# Altium integrated library Xilinx XC4000XL.IntLib: 450 symbols (part 1 of 58)
Pins are listed as number, name and electrical type; pins without a type are passive.

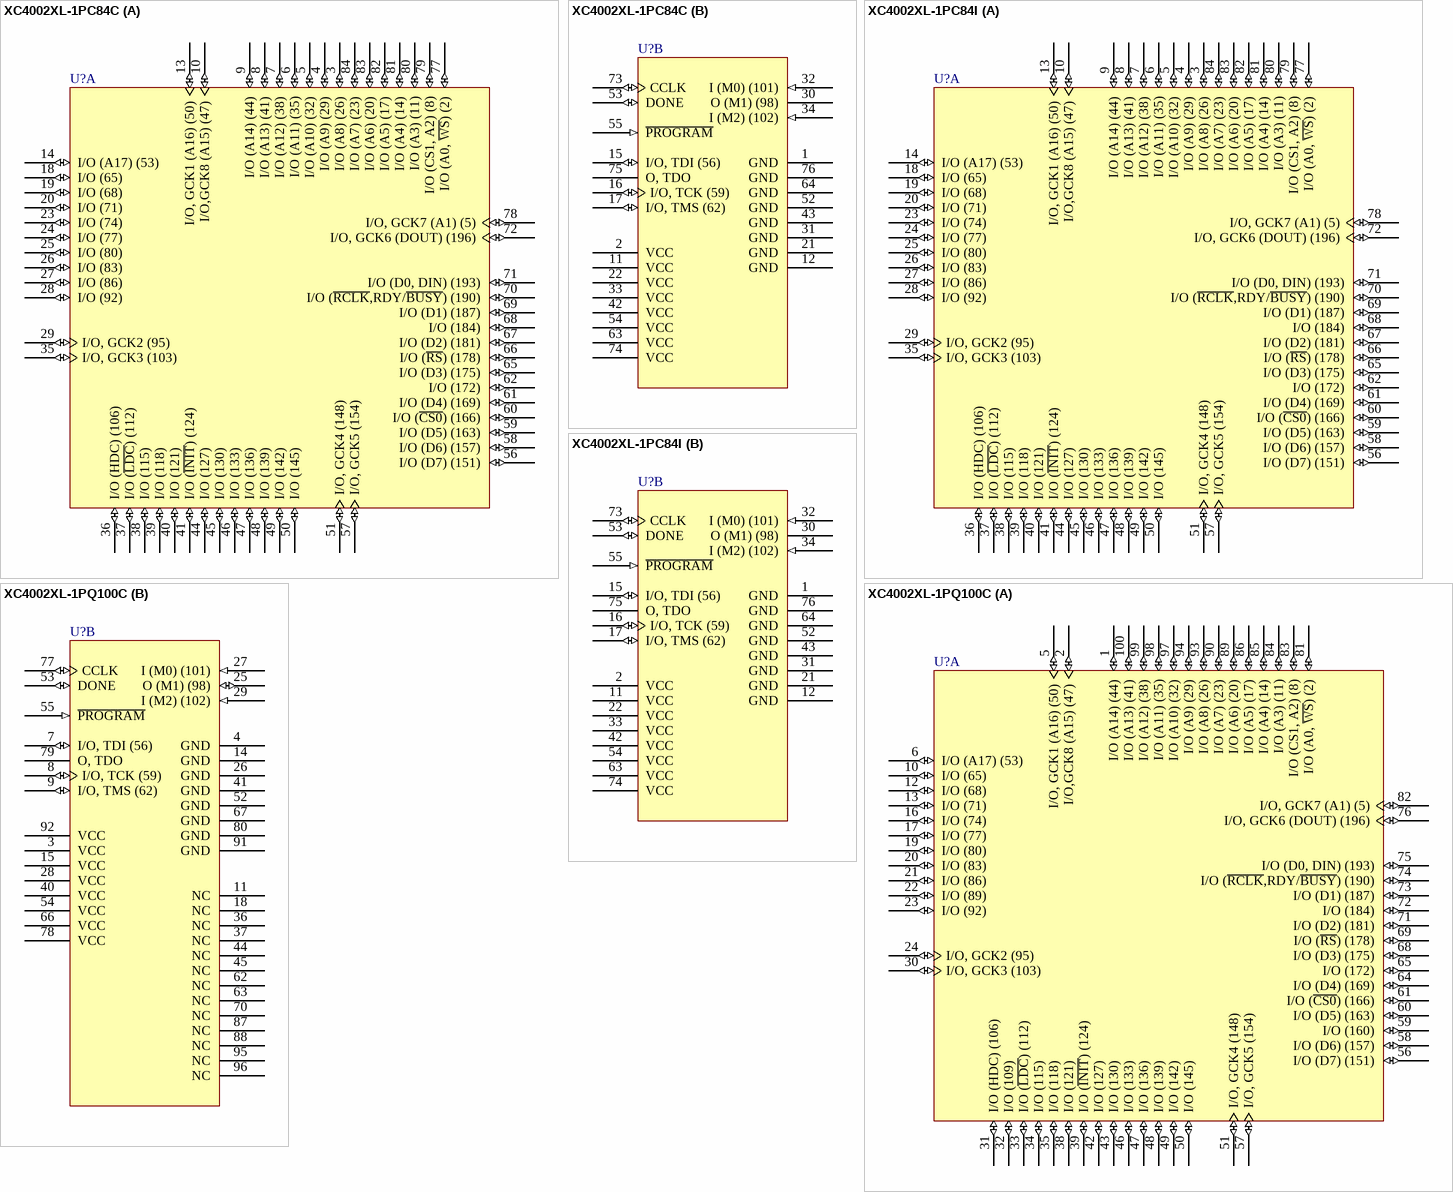
[diagram p0: symbols XC4002XL-1PC84C to XC4002XL-1PQ100C]

## XC4002XL-1PC84C
designator U?
XC4000XL FPGA, 61 I/Os, 84-Pin PLCC, Speed Grade 1, Commercial Grade; Published: 28-Feb-2003; LatestRevisionDate: 13-Apr-2006; LatestRevisionNote: IPC-7351 Footprint Added.; DatasheetVersion: ver1.6, May-1999; PackageVersion: ver1.2, Jun-2004; PackageReference: PC84; Publisher: Altium Limited; PackageDescription: 84-Pin Plastic Leaded Chip Carrier (PC84); Code_JEDEC: MS-047; Code_IPC: PLCC-84; ComponentLink1Description: XC4000XL Datasheet; ComponentLink1URL: http://www.xilinx.com/support/documentation/data_sheets/4000.pdf; ComponentLink2Description: Discontinuation Notice; ComponentLink2URL: http://www.xilinx.com/support/documentation/customer_notices/pdn00001.pdf; ComponentLink3Description: PC84 Package Drawing; ComponentLink3URL: http://www.xilinx.com/support/documentation/package_specs/pc84.pdf; ComponentLink4Description: XC4000 Documents; ComponentLink4URL: http://www.xilinx.com/support/documentation/xc4000.htm; ComponentLink5Description: Xilinx.com Home; ComponentLink5URL: http://www.xilinx.com
footprint PC84_N (Leaded Chip Carrier, 84-Leads, Body 29.3x29.3mm, Pitch 1.27mm, IPC Medium Density)
footprint PC84_L (Leaded Chip Carrier, 84-Leads, Body 29.3x29.3mm, Pitch 1.27mm, IPC High Density)
footprint PC84_M (Leaded Chip Carrier, 84-Leads, Body 29.3x29.3mm, Pitch 1.27mm, IPC Low Density)
part A pins: 3 I/O (A8) (26) (io), 4 I/O (A9) (29) (io), 5 I/O (A10) (32) (io), 6 I/O (A11) (35) (io), 7 I/O (A12) (38) (io), 8 I/O (A13) (41) (io), 9 I/O (A14) (44) (io), 10 I/O,GCK8 (A15) (47) (io), 13 I/O, GCK1 (A16) (50) (io), 14 I/O (A17) (53) (io), 18 I/O (65) (io), 19 I/O (68) (io), 20 I/O (71) (io), 23 I/O (74) (io), 24 I/O (77) (io), 25 I/O (80) (io), 26 I/O (83) (io), 27 I/O (86) (io), 28 I/O (92) (io), 29 I/O, GCK2 (95) (io), 35 I/O, GCK3 (103) (io), 36 I/O (HDC) (106) (io), 37 I/O (~{LDC}) (112) (io), 38 I/O (115) (io), 39 I/O (118) (io), 40 I/O (121) (io), 41 I/O (~{INIT}) (124) (io), 44 I/O (127) (io), 45 I/O (130) (io), 46 I/O (133) (io), 47 I/O (136) (io), 48 I/O (139) (io), 49 I/O (142) (io), 50 I/O (145) (io), 51 I/O, GCK4 (148) (io), 56 I/O (D7) (151) (io), 57 I/O, GCK5 (154) (io), 58 I/O (D6) (157) (io), 59 I/O (D5) (163) (io), 60 I/O (~{CS0}) (166) (io), 61 I/O (D4) (169) (io), 62 I/O (172) (io), 65 I/O (D3) (175) (io), 66 I/O (~{RS}) (178) (io), 67 I/O (D2) (181) (io), 68 I/O (184) (io), 69 I/O (D1) (187) (io), 70 I/O (~{RCLK},RDY/~{BUSY}) (190) (io), 71 I/O (D0, DIN) (193) (io), 72 I/O, GCK6 (DOUT) (196) (io), 77 I/O (A0, ~{WS}) (2) (io), 78 I/O, GCK7 (A1) (5) (io), 79 I/O (CS1, A2) (8) (io), 80 I/O (A3) (11) (io), 81 I/O (A4) (14) (io), 82 I/O (A5) (17) (io), 83 I/O (A6) (20) (io), 84 I/O (A7) (23) (io)
part B pins: 1 GND (power), 2 VCC (power), 11 VCC (power), 12 GND (power), 15 I/O, TDI (56) (io), 16 I/O, TCK (59) (io), 17 I/O, TMS (62) (io), 21 GND (power), 22 VCC (power), 30 O (M1) (98), 31 GND (power), 32 I (M0) (101) (in), 33 VCC (power), 34 I (M2) (102) (in), 42 VCC (power), 43 GND (power), 52 GND (power), 53 DONE (io), 54 VCC (power), 55 ~{PROGRAM} (in), 63 VCC (power), 64 GND (power), 73 CCLK (io), 74 VCC (power), 75 O, TDO (hiz), 76 GND (power)

## XC4002XL-1PC84I
designator U?
XC4000XL FPGA, 61 I/Os, 84-Pin PLCC, Speed Grade 1, Industrial Grade; Published: 28-Feb-2003; LatestRevisionDate: 13-Apr-2006; LatestRevisionNote: IPC-7351 Footprint Added.; DatasheetVersion: ver1.6, May-1999; PackageVersion: ver1.2, Jun-2004; PackageReference: PC84; Publisher: Altium Limited; PackageDescription: 84-Pin Plastic Leaded Chip Carrier (PC84); Code_JEDEC: MS-047; Code_IPC: PLCC-84; ComponentLink1Description: XC4000XL Datasheet; ComponentLink1URL: http://www.xilinx.com/support/documentation/data_sheets/4000.pdf; ComponentLink2Description: Discontinuation Notice; ComponentLink2URL: http://www.xilinx.com/support/documentation/customer_notices/pdn00001.pdf; ComponentLink3Description: PC84 Package Drawing; ComponentLink3URL: http://www.xilinx.com/support/documentation/package_specs/pc84.pdf; ComponentLink4Description: XC4000 Documents; ComponentLink4URL: http://www.xilinx.com/support/documentation/xc4000.htm; ComponentLink5Description: Xilinx.com Home; ComponentLink5URL: http://www.xilinx.com
footprint PC84_N (Leaded Chip Carrier, 84-Leads, Body 29.3x29.3mm, Pitch 1.27mm, IPC Medium Density)
footprint PC84_L (Leaded Chip Carrier, 84-Leads, Body 29.3x29.3mm, Pitch 1.27mm, IPC High Density)
footprint PC84_M (Leaded Chip Carrier, 84-Leads, Body 29.3x29.3mm, Pitch 1.27mm, IPC Low Density)
part A pins: 3 I/O (A8) (26) (io), 4 I/O (A9) (29) (io), 5 I/O (A10) (32) (io), 6 I/O (A11) (35) (io), 7 I/O (A12) (38) (io), 8 I/O (A13) (41) (io), 9 I/O (A14) (44) (io), 10 I/O,GCK8 (A15) (47) (io), 13 I/O, GCK1 (A16) (50) (io), 14 I/O (A17) (53) (io), 18 I/O (65) (io), 19 I/O (68) (io), 20 I/O (71) (io), 23 I/O (74) (io), 24 I/O (77) (io), 25 I/O (80) (io), 26 I/O (83) (io), 27 I/O (86) (io), 28 I/O (92) (io), 29 I/O, GCK2 (95) (io), 35 I/O, GCK3 (103) (io), 36 I/O (HDC) (106) (io), 37 I/O (~{LDC}) (112) (io), 38 I/O (115) (io), 39 I/O (118) (io), 40 I/O (121) (io), 41 I/O (~{INIT}) (124) (io), 44 I/O (127) (io), 45 I/O (130) (io), 46 I/O (133) (io), 47 I/O (136) (io), 48 I/O (139) (io), 49 I/O (142) (io), 50 I/O (145) (io), 51 I/O, GCK4 (148) (io), 56 I/O (D7) (151) (io), 57 I/O, GCK5 (154) (io), 58 I/O (D6) (157) (io), 59 I/O (D5) (163) (io), 60 I/O (~{CS0}) (166) (io), 61 I/O (D4) (169) (io), 62 I/O (172) (io), 65 I/O (D3) (175) (io), 66 I/O (~{RS}) (178) (io), 67 I/O (D2) (181) (io), 68 I/O (184) (io), 69 I/O (D1) (187) (io), 70 I/O (~{RCLK},RDY/~{BUSY}) (190) (io), 71 I/O (D0, DIN) (193) (io), 72 I/O, GCK6 (DOUT) (196) (io), 77 I/O (A0, ~{WS}) (2) (io), 78 I/O, GCK7 (A1) (5) (io), 79 I/O (CS1, A2) (8) (io), 80 I/O (A3) (11) (io), 81 I/O (A4) (14) (io), 82 I/O (A5) (17) (io), 83 I/O (A6) (20) (io), 84 I/O (A7) (23) (io)
part B pins: 1 GND (power), 2 VCC (power), 11 VCC (power), 12 GND (power), 15 I/O, TDI (56) (io), 16 I/O, TCK (59) (io), 17 I/O, TMS (62) (io), 21 GND (power), 22 VCC (power), 30 O (M1) (98), 31 GND (power), 32 I (M0) (101) (in), 33 VCC (power), 34 I (M2) (102) (in), 42 VCC (power), 43 GND (power), 52 GND (power), 53 DONE (io), 54 VCC (power), 55 ~{PROGRAM} (in), 63 VCC (power), 64 GND (power), 73 CCLK (io), 74 VCC (power), 75 O, TDO (hiz), 76 GND (power)

## XC4002XL-1PQ100C
designator U?
XC4000XL FPGA, 64 I/Os, 100-Pin PQFP, Speed Grade 1, Commercial Grade; Published: 28-Feb-2003; LatestRevisionDate: 13-Apr-2006; LatestRevisionNote: IPC-7351 Footprint Added.; DatasheetVersion: ver1.6, May-1999; PackageVersion: ver1.2, Oct-2002; PackageReference: PQ100; Publisher: Altium Limited; PackageDescription: 100-Pin Plastic Quad Flat Pack (PQ100); Code_IPC: QFP65P1720X2320-100; ComponentLink1Description: XC4000XL Datasheet; ComponentLink1URL: http://www.xilinx.com/support/documentation/data_sheets/4000.pdf; ComponentLink2Description: Discontinuation Notice; ComponentLink2URL: http://www.xilinx.com/support/documentation/customer_notices/pdn00001.pdf; ComponentLink3Description: PQ100 Package Drawing; ComponentLink3URL: http://www.xilinx.com/support/documentation/package_specs/pq100.pdf; ComponentLink4Description: XC4000 Documents; ComponentLink4URL: http://www.xilinx.com/support/documentation/xc4000.htm; ComponentLink5Description: Xilinx.com Home; ComponentLink5URL: http://www.xilinx.com
footprint PQ100_N (QFP, 100-Leads, Body 20x14mm, Pitch 0.65mm, IPC Medium Density)
footprint PQ100_L (QFP, 100-Leads, Body 20x14mm, Pitch 0.65mm, IPC High Density)
footprint PQ100_M (QFP, 100-Leads, Body 20x14mm, Pitch 0.65mm, IPC Low Density)
part A pins: 1 I/O (A14) (44) (io), 2 I/O,GCK8 (A15) (47) (io), 5 I/O, GCK1 (A16) (50) (io), 6 I/O (A17) (53) (io), 10 I/O (65) (io), 12 I/O (68) (io), 13 I/O (71) (io), 16 I/O (74) (io), 17 I/O (77) (io), 19 I/O (80) (io), 20 I/O (83) (io), 21 I/O (86) (io), 22 I/O (89) (io), 23 I/O (92) (io), 24 I/O, GCK2 (95) (io), 30 I/O, GCK3 (103) (io), 31 I/O (HDC) (106) (io), 32 I/O (109) (io), 33 I/O (~{LDC}) (112) (io), 34 I/O (115) (io), 35 I/O (118) (io), 38 I/O (121) (io), 39 I/O (~{INIT}) (124) (io), 42 I/O (127) (io), 43 I/O (130) (io), 46 I/O (133) (io), 47 I/O (136) (io), 48 I/O (139) (io), 49 I/O (142) (io), 50 I/O (145) (io), 51 I/O, GCK4 (148) (io), 56 I/O (D7) (151) (io), 57 I/O, GCK5 (154) (io), 58 I/O (D6) (157) (io), 59 I/O (160) (io), 60 I/O (D5) (163) (io), 61 I/O (~{CS0}) (166) (io), 64 I/O (D4) (169) (io), 65 I/O (172) (io), 68 I/O (D3) (175) (io), 69 I/O (~{RS}) (178) (io), 71 I/O (D2) (181) (io), 72 I/O (184) (io), 73 I/O (D1) (187) (io), 74 I/O (~{RCLK},RDY/~{BUSY}) (190) (io), 75 I/O (D0, DIN) (193) (io), 76 I/O, GCK6 (DOUT) (196) (io), 81 I/O (A0, ~{WS}) (2) (io), 82 I/O, GCK7 (A1) (5) (io), 83 I/O (CS1, A2) (8) (io), 84 I/O (A3) (11) (io), 85 I/O (A4) (14) (io), 86 I/O (A5) (17) (io), 89 I/O (A6) (20) (io), 90 I/O (A7) (23) (io), 93 I/O (A8) (26) (io), 94 I/O (A9) (29) (io), 97 I/O (A10) (32) (io), 98 I/O (A11) (35) (io), 99 I/O (A12) (38) (io), 100 I/O (A13) (41) (io)
part B pins: 3 VCC (power), 4 GND (power), 7 I/O, TDI (56) (io), 8 I/O, TCK (59) (io), 9 I/O, TMS (62) (io), 11 NC, 14 GND (power), 15 VCC (power), 18 NC, 25 O (M1) (98) (io), 26 GND (power), 27 I (M0) (101) (in), 28 VCC (power), 29 I (M2) (102) (in), 36 NC, 37 NC, 40 VCC (power), 41 GND (power), 44 NC, 45 NC, 52 GND (power), 53 DONE (io), 54 VCC (power), 55 ~{PROGRAM} (in), 62 NC, 63 NC, 66 VCC (power), 67 GND (power), 70 NC, 77 CCLK (io), 78 VCC (power), 79 O, TDO (hiz), 80 GND (power), 87 NC, 88 NC, 91 GND (power), 92 VCC (power), 95 NC, 96 NC

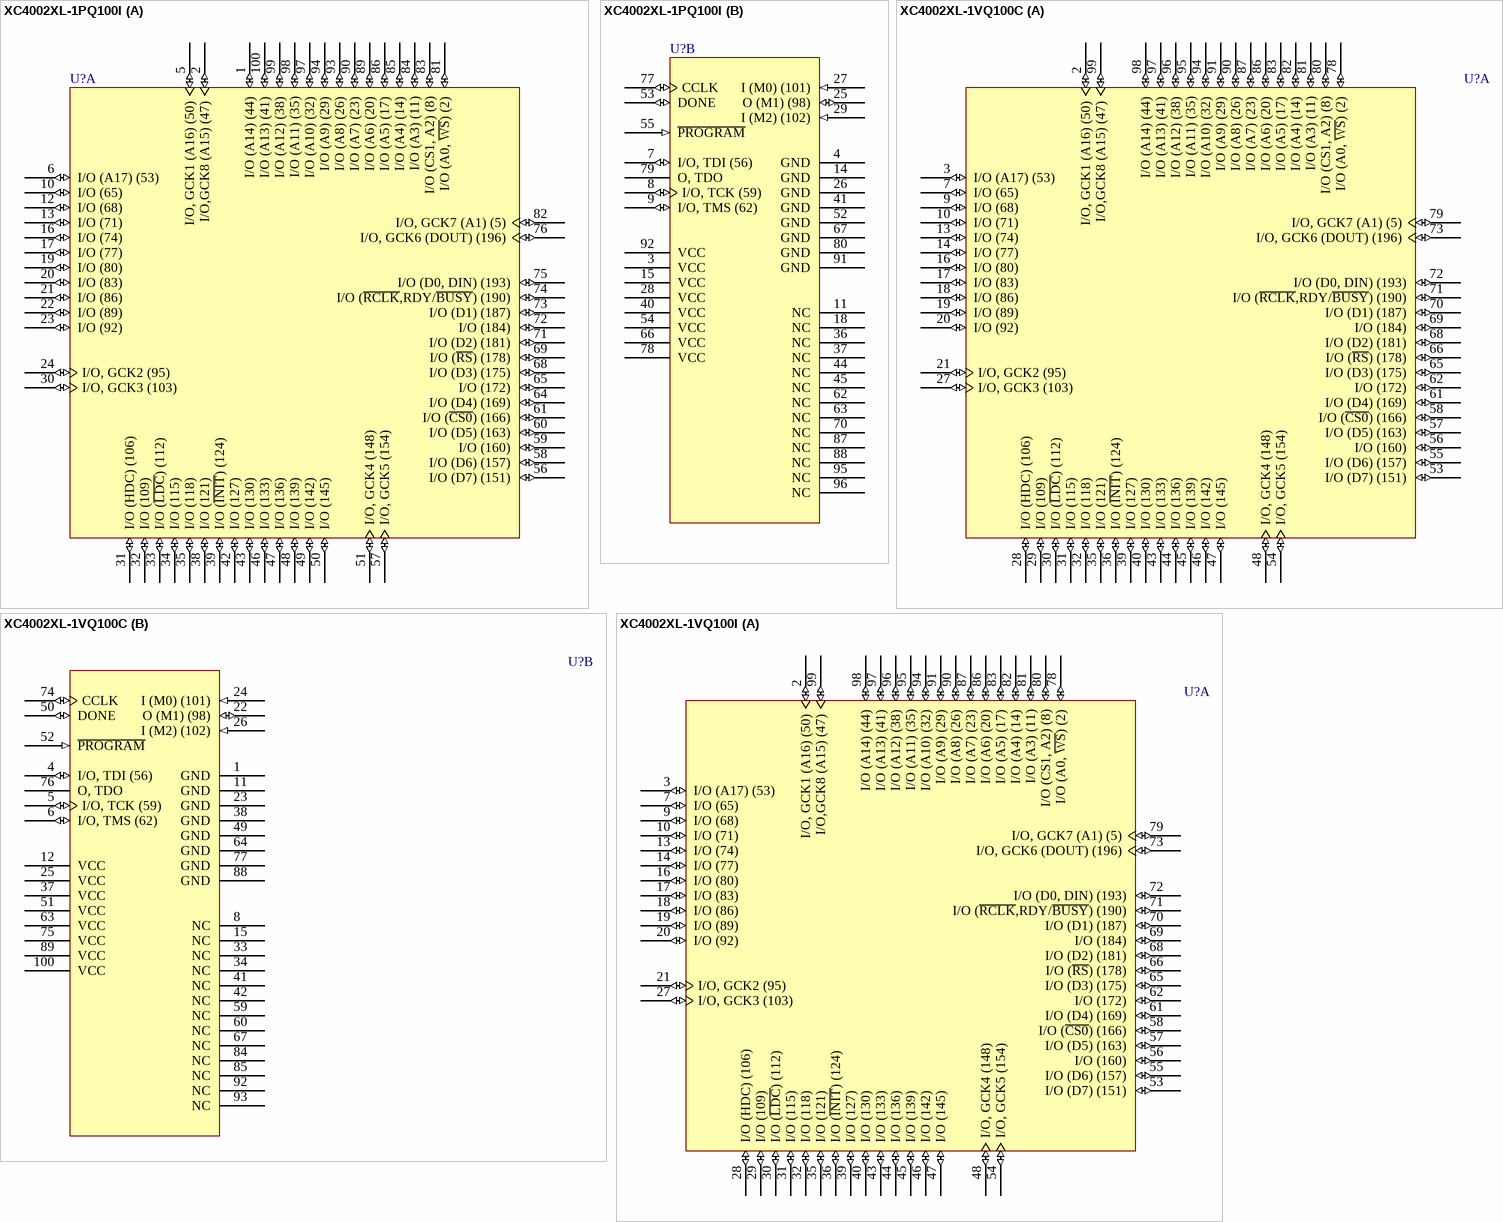
[diagram p1: symbols XC4002XL-1PQ100I to XC4002XL-1VQ100I]

## XC4002XL-1PQ100I
designator U?
XC4000XL FPGA, 64 I/Os, 100-Pin PQFP, Speed Grade 1, Industrial Grade; Published: 28-Feb-2003; LatestRevisionDate: 13-Apr-2006; LatestRevisionNote: IPC-7351 Footprint Added.; DatasheetVersion: ver1.6, May-1999; PackageVersion: ver1.2, Oct-2002; PackageReference: PQ100; Publisher: Altium Limited; PackageDescription: 100-Pin Plastic Quad Flat Pack (PQ100); Code_IPC: QFP65P1720X2320-100; ComponentLink1Description: XC4000XL Datasheet; ComponentLink1URL: http://www.xilinx.com/support/documentation/data_sheets/4000.pdf; ComponentLink2Description: Discontinuation Notice; ComponentLink2URL: http://www.xilinx.com/support/documentation/customer_notices/pdn00001.pdf; ComponentLink3Description: PQ100 Package Drawing; ComponentLink3URL: http://www.xilinx.com/support/documentation/package_specs/pq100.pdf; ComponentLink4Description: XC4000 Documents; ComponentLink4URL: http://www.xilinx.com/support/documentation/xc4000.htm; ComponentLink5Description: Xilinx.com Home; ComponentLink5URL: http://www.xilinx.com
footprint PQ100_N (QFP, 100-Leads, Body 20x14mm, Pitch 0.65mm, IPC Medium Density)
footprint PQ100_L (QFP, 100-Leads, Body 20x14mm, Pitch 0.65mm, IPC High Density)
footprint PQ100_M (QFP, 100-Leads, Body 20x14mm, Pitch 0.65mm, IPC Low Density)
part A pins: 1 I/O (A14) (44) (io), 2 I/O,GCK8 (A15) (47) (io), 5 I/O, GCK1 (A16) (50) (io), 6 I/O (A17) (53) (io), 10 I/O (65) (io), 12 I/O (68) (io), 13 I/O (71) (io), 16 I/O (74) (io), 17 I/O (77) (io), 19 I/O (80) (io), 20 I/O (83) (io), 21 I/O (86) (io), 22 I/O (89) (io), 23 I/O (92) (io), 24 I/O, GCK2 (95) (io), 30 I/O, GCK3 (103) (io), 31 I/O (HDC) (106) (io), 32 I/O (109) (io), 33 I/O (~{LDC}) (112) (io), 34 I/O (115) (io), 35 I/O (118) (io), 38 I/O (121) (io), 39 I/O (~{INIT}) (124) (io), 42 I/O (127) (io), 43 I/O (130) (io), 46 I/O (133) (io), 47 I/O (136) (io), 48 I/O (139) (io), 49 I/O (142) (io), 50 I/O (145) (io), 51 I/O, GCK4 (148) (io), 56 I/O (D7) (151) (io), 57 I/O, GCK5 (154) (io), 58 I/O (D6) (157) (io), 59 I/O (160) (io), 60 I/O (D5) (163) (io), 61 I/O (~{CS0}) (166) (io), 64 I/O (D4) (169) (io), 65 I/O (172) (io), 68 I/O (D3) (175) (io), 69 I/O (~{RS}) (178) (io), 71 I/O (D2) (181) (io), 72 I/O (184) (io), 73 I/O (D1) (187) (io), 74 I/O (~{RCLK},RDY/~{BUSY}) (190) (io), 75 I/O (D0, DIN) (193) (io), 76 I/O, GCK6 (DOUT) (196) (io), 81 I/O (A0, ~{WS}) (2) (io), 82 I/O, GCK7 (A1) (5) (io), 83 I/O (CS1, A2) (8) (io), 84 I/O (A3) (11) (io), 85 I/O (A4) (14) (io), 86 I/O (A5) (17) (io), 89 I/O (A6) (20) (io), 90 I/O (A7) (23) (io), 93 I/O (A8) (26) (io), 94 I/O (A9) (29) (io), 97 I/O (A10) (32) (io), 98 I/O (A11) (35) (io), 99 I/O (A12) (38) (io), 100 I/O (A13) (41) (io)
part B pins: 3 VCC (power), 4 GND (power), 7 I/O, TDI (56) (io), 8 I/O, TCK (59) (io), 9 I/O, TMS (62) (io), 11 NC, 14 GND (power), 15 VCC (power), 18 NC, 25 O (M1) (98) (io), 26 GND (power), 27 I (M0) (101) (in), 28 VCC (power), 29 I (M2) (102) (in), 36 NC, 37 NC, 40 VCC (power), 41 GND (power), 44 NC, 45 NC, 52 GND (power), 53 DONE (io), 54 VCC (power), 55 ~{PROGRAM} (in), 62 NC, 63 NC, 66 VCC (power), 67 GND (power), 70 NC, 77 CCLK (io), 78 VCC (power), 79 O, TDO (hiz), 80 GND (power), 87 NC, 88 NC, 91 GND (power), 92 VCC (power), 95 NC, 96 NC

## XC4002XL-1VQ100C
designator U?
XC4000XL FPGA, 64 I/Os, 100-Pin VQFP, Speed Grade 1, Commercial Grade; Published: 28-Feb-2003; LatestRevisionDate: 13-Apr-2006; LatestRevisionNote: IPC-7351 Footprint Added.; DatasheetVersion: ver1.6, May-1999; PackageVersion: ver1.2.1, Feb-2007; PackageReference: VQ100; Publisher: Altium Limited; PackageDescription: 100-Pin Very Thin Quad Flat Pack (VQ100); Code_JEDEC: MS-026-AED; ComponentLink1Description: XC4000XL Datasheet; ComponentLink1URL: http://www.xilinx.com/support/documentation/data_sheets/4000.pdf; ComponentLink2Description: Discontinuation Notice; ComponentLink2URL: http://www.xilinx.com/support/documentation/customer_notices/pdn00001.pdf; ComponentLink3Description: VQ100 Package Drawing; ComponentLink3URL: http://www.xilinx.com/support/documentation/package_specs/vq100.pdf; ComponentLink4Description: XC4000 Documents; ComponentLink4URL: http://www.xilinx.com/support/documentation/xc4000.htm; ComponentLink5Description: Xilinx.com Home; ComponentLink5URL: http://www.xilinx.com
footprint VQ100_N (Thin QFP, 100-Leads, Body 14x14mm, Pitch 0.5mm, IPC Medium Density)
footprint VQ100_L (Thin QFP, 100-Leads, Body 14x14mm, Pitch 0.5mm, IPC High Density)
footprint VQ100_M (Thin QFP, 100-Leads, Body 14x14mm, Pitch 0.5mm, IPC Low Density)
part A pins: 2 I/O, GCK1 (A16) (50) (io), 3 I/O (A17) (53) (io), 7 I/O (65) (io), 9 I/O (68) (io), 10 I/O (71) (io), 13 I/O (74) (io), 14 I/O (77) (io), 16 I/O (80) (io), 17 I/O (83) (io), 18 I/O (86) (io), 19 I/O (89) (io), 20 I/O (92) (io), 21 I/O, GCK2 (95) (io), 27 I/O, GCK3 (103) (io), 28 I/O (HDC) (106) (io), 29 I/O (109) (io), 30 I/O (~{LDC}) (112) (io), 31 I/O (115) (io), 32 I/O (118) (io), 35 I/O (121) (io), 36 I/O (~{INIT}) (124) (io), 39 I/O (127) (io), 40 I/O (130) (io), 43 I/O (133) (io), 44 I/O (136) (io), 45 I/O (139) (io), 46 I/O (142) (io), 47 I/O (145) (io), 48 I/O, GCK4 (148) (io), 53 I/O (D7) (151) (io), 54 I/O, GCK5 (154) (io), 55 I/O (D6) (157) (io), 56 I/O (160) (io), 57 I/O (D5) (163) (io), 58 I/O (~{CS0}) (166) (io), 61 I/O (D4) (169) (io), 62 I/O (172) (io), 65 I/O (D3) (175) (io), 66 I/O (~{RS}) (178) (io), 68 I/O (D2) (181) (io), 69 I/O (184) (io), 70 I/O (D1) (187) (io), 71 I/O (~{RCLK},RDY/~{BUSY}) (190) (io), 72 I/O (D0, DIN) (193) (io), 73 I/O, GCK6 (DOUT) (196) (io), 78 I/O (A0, ~{WS}) (2) (io), 79 I/O, GCK7 (A1) (5) (io), 80 I/O (CS1, A2) (8) (io), 81 I/O (A3) (11) (io), 82 I/O (A4) (14) (io), 83 I/O (A5) (17) (io), 86 I/O (A6) (20) (io), 87 I/O (A7) (23) (io), 90 I/O (A8) (26) (io), 91 I/O (A9) (29) (io), 94 I/O (A10) (32) (io), 95 I/O (A11) (35) (io), 96 I/O (A12) (38) (io), 97 I/O (A13) (41) (io), 98 I/O (A14) (44) (io), 99 I/O,GCK8 (A15) (47) (io)
part B pins: 1 GND (power), 4 I/O, TDI (56) (io), 5 I/O, TCK (59) (io), 6 I/O, TMS (62) (io), 8 NC, 11 GND (power), 12 VCC (power), 15 NC, 22 O (M1) (98) (io), 23 GND (power), 24 I (M0) (101) (in), 25 VCC (power), 26 I (M2) (102) (in), 33 NC, 34 NC, 37 VCC (power), 38 GND (power), 41 NC, 42 NC, 49 GND (power), 50 DONE (io), 51 VCC (power), 52 ~{PROGRAM} (in), 59 NC, 60 NC, 63 VCC (power), 64 GND (power), 67 NC, 74 CCLK (io), 75 VCC (power), 76 O, TDO (hiz), 77 GND (power), 84 NC, 85 NC, 88 GND (power), 89 VCC (power), 92 NC, 93 NC, 100 VCC (power)

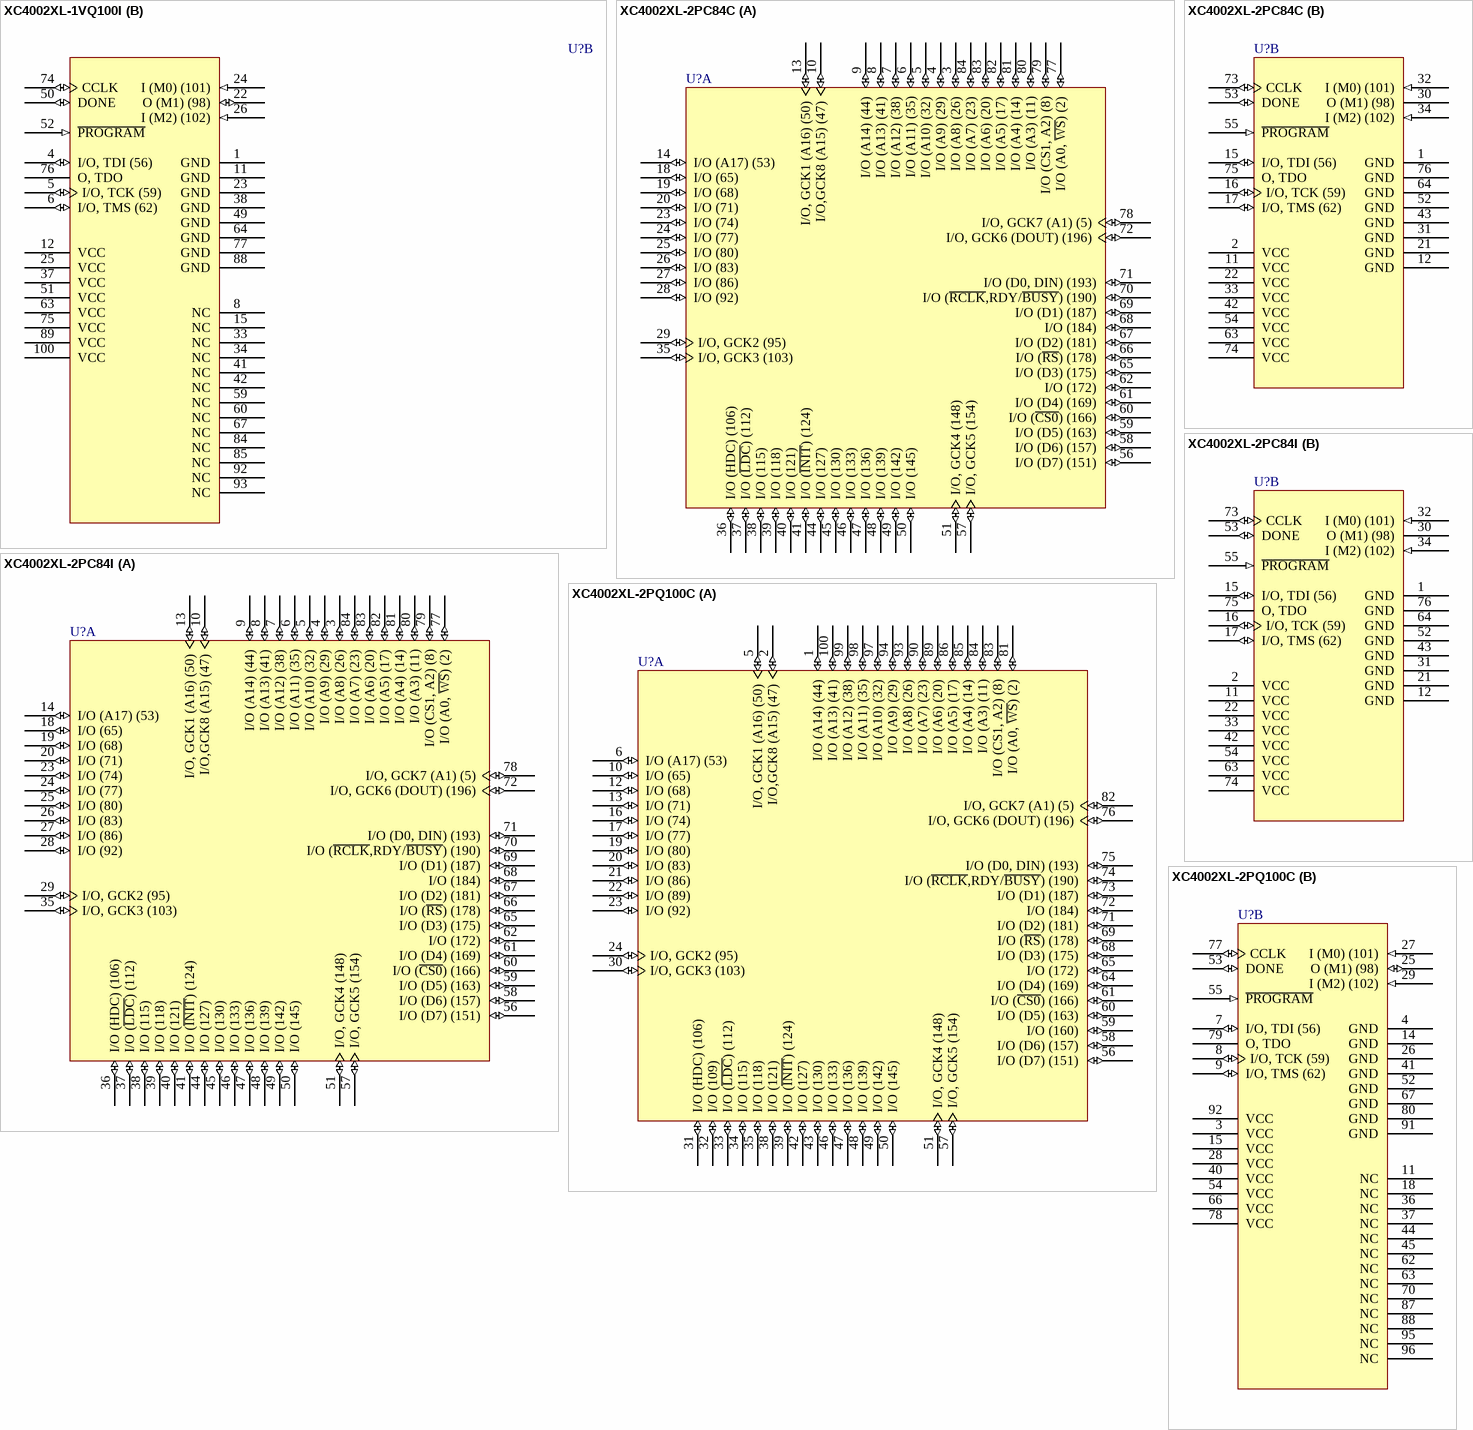
[diagram p2: symbols XC4002XL-1VQ100I to XC4002XL-2PQ100C]

## XC4002XL-1VQ100I
designator U?
XC4000XL FPGA, 64 I/Os, 100-Pin VQFP, Speed Grade 1, Industrial Grade; Published: 28-Feb-2003; LatestRevisionDate: 13-Apr-2006; LatestRevisionNote: IPC-7351 Footprint Added.; DatasheetVersion: ver1.6, May-1999; PackageVersion: ver1.2.1, Feb-2007; PackageReference: VQ100; Publisher: Altium Limited; PackageDescription: 100-Pin Very Thin Quad Flat Pack (VQ100); Code_JEDEC: MS-026-AED; ComponentLink1Description: XC4000XL Datasheet; ComponentLink1URL: http://www.xilinx.com/support/documentation/data_sheets/4000.pdf; ComponentLink2Description: Discontinuation Notice; ComponentLink2URL: http://www.xilinx.com/support/documentation/customer_notices/pdn00001.pdf; ComponentLink3Description: VQ100 Package Drawing; ComponentLink3URL: http://www.xilinx.com/support/documentation/package_specs/vq100.pdf; ComponentLink4Description: XC4000 Documents; ComponentLink4URL: http://www.xilinx.com/support/documentation/xc4000.htm; ComponentLink5Description: Xilinx.com Home; ComponentLink5URL: http://www.xilinx.com
footprint VQ100_N (Thin QFP, 100-Leads, Body 14x14mm, Pitch 0.5mm, IPC Medium Density)
footprint VQ100_L (Thin QFP, 100-Leads, Body 14x14mm, Pitch 0.5mm, IPC High Density)
footprint VQ100_M (Thin QFP, 100-Leads, Body 14x14mm, Pitch 0.5mm, IPC Low Density)
part A pins: 2 I/O, GCK1 (A16) (50) (io), 3 I/O (A17) (53) (io), 7 I/O (65) (io), 9 I/O (68) (io), 10 I/O (71) (io), 13 I/O (74) (io), 14 I/O (77) (io), 16 I/O (80) (io), 17 I/O (83) (io), 18 I/O (86) (io), 19 I/O (89) (io), 20 I/O (92) (io), 21 I/O, GCK2 (95) (io), 27 I/O, GCK3 (103) (io), 28 I/O (HDC) (106) (io), 29 I/O (109) (io), 30 I/O (~{LDC}) (112) (io), 31 I/O (115) (io), 32 I/O (118) (io), 35 I/O (121) (io), 36 I/O (~{INIT}) (124) (io), 39 I/O (127) (io), 40 I/O (130) (io), 43 I/O (133) (io), 44 I/O (136) (io), 45 I/O (139) (io), 46 I/O (142) (io), 47 I/O (145) (io), 48 I/O, GCK4 (148) (io), 53 I/O (D7) (151) (io), 54 I/O, GCK5 (154) (io), 55 I/O (D6) (157) (io), 56 I/O (160) (io), 57 I/O (D5) (163) (io), 58 I/O (~{CS0}) (166) (io), 61 I/O (D4) (169) (io), 62 I/O (172) (io), 65 I/O (D3) (175) (io), 66 I/O (~{RS}) (178) (io), 68 I/O (D2) (181) (io), 69 I/O (184) (io), 70 I/O (D1) (187) (io), 71 I/O (~{RCLK},RDY/~{BUSY}) (190) (io), 72 I/O (D0, DIN) (193) (io), 73 I/O, GCK6 (DOUT) (196) (io), 78 I/O (A0, ~{WS}) (2) (io), 79 I/O, GCK7 (A1) (5) (io), 80 I/O (CS1, A2) (8) (io), 81 I/O (A3) (11) (io), 82 I/O (A4) (14) (io), 83 I/O (A5) (17) (io), 86 I/O (A6) (20) (io), 87 I/O (A7) (23) (io), 90 I/O (A8) (26) (io), 91 I/O (A9) (29) (io), 94 I/O (A10) (32) (io), 95 I/O (A11) (35) (io), 96 I/O (A12) (38) (io), 97 I/O (A13) (41) (io), 98 I/O (A14) (44) (io), 99 I/O,GCK8 (A15) (47) (io)
part B pins: 1 GND (power), 4 I/O, TDI (56) (io), 5 I/O, TCK (59) (io), 6 I/O, TMS (62) (io), 8 NC, 11 GND (power), 12 VCC (power), 15 NC, 22 O (M1) (98) (io), 23 GND (power), 24 I (M0) (101) (in), 25 VCC (power), 26 I (M2) (102) (in), 33 NC, 34 NC, 37 VCC (power), 38 GND (power), 41 NC, 42 NC, 49 GND (power), 50 DONE (io), 51 VCC (power), 52 ~{PROGRAM} (in), 59 NC, 60 NC, 63 VCC (power), 64 GND (power), 67 NC, 74 CCLK (io), 75 VCC (power), 76 O, TDO (hiz), 77 GND (power), 84 NC, 85 NC, 88 GND (power), 89 VCC (power), 92 NC, 93 NC, 100 VCC (power)

## XC4002XL-2PC84C
designator U?
XC4000XL FPGA, 61 I/Os, 84-Pin PLCC, Speed Grade 2, Commercial Grade; Published: 28-Feb-2003; LatestRevisionDate: 13-Apr-2006; LatestRevisionNote: IPC-7351 Footprint Added.; DatasheetVersion: ver1.6, May-1999; PackageVersion: ver1.2, Jun-2004; PackageReference: PC84; Publisher: Altium Limited; PackageDescription: 84-Pin Plastic Leaded Chip Carrier (PC84); Code_JEDEC: MS-047; Code_IPC: PLCC-84; ComponentLink1Description: XC4000XL Datasheet; ComponentLink1URL: http://www.xilinx.com/support/documentation/data_sheets/4000.pdf; ComponentLink2Description: Discontinuation Notice; ComponentLink2URL: http://www.xilinx.com/support/documentation/customer_notices/pdn00001.pdf; ComponentLink3Description: PC84 Package Drawing; ComponentLink3URL: http://www.xilinx.com/support/documentation/package_specs/pc84.pdf; ComponentLink4Description: XC4000 Documents; ComponentLink4URL: http://www.xilinx.com/support/documentation/xc4000.htm; ComponentLink5Description: Xilinx.com Home; ComponentLink5URL: http://www.xilinx.com
footprint PC84_N (Leaded Chip Carrier, 84-Leads, Body 29.3x29.3mm, Pitch 1.27mm, IPC Medium Density)
footprint PC84_L (Leaded Chip Carrier, 84-Leads, Body 29.3x29.3mm, Pitch 1.27mm, IPC High Density)
footprint PC84_M (Leaded Chip Carrier, 84-Leads, Body 29.3x29.3mm, Pitch 1.27mm, IPC Low Density)
part A pins: 3 I/O (A8) (26) (io), 4 I/O (A9) (29) (io), 5 I/O (A10) (32) (io), 6 I/O (A11) (35) (io), 7 I/O (A12) (38) (io), 8 I/O (A13) (41) (io), 9 I/O (A14) (44) (io), 10 I/O,GCK8 (A15) (47) (io), 13 I/O, GCK1 (A16) (50) (io), 14 I/O (A17) (53) (io), 18 I/O (65) (io), 19 I/O (68) (io), 20 I/O (71) (io), 23 I/O (74) (io), 24 I/O (77) (io), 25 I/O (80) (io), 26 I/O (83) (io), 27 I/O (86) (io), 28 I/O (92) (io), 29 I/O, GCK2 (95) (io), 35 I/O, GCK3 (103) (io), 36 I/O (HDC) (106) (io), 37 I/O (~{LDC}) (112) (io), 38 I/O (115) (io), 39 I/O (118) (io), 40 I/O (121) (io), 41 I/O (~{INIT}) (124) (io), 44 I/O (127) (io), 45 I/O (130) (io), 46 I/O (133) (io), 47 I/O (136) (io), 48 I/O (139) (io), 49 I/O (142) (io), 50 I/O (145) (io), 51 I/O, GCK4 (148) (io), 56 I/O (D7) (151) (io), 57 I/O, GCK5 (154) (io), 58 I/O (D6) (157) (io), 59 I/O (D5) (163) (io), 60 I/O (~{CS0}) (166) (io), 61 I/O (D4) (169) (io), 62 I/O (172) (io), 65 I/O (D3) (175) (io), 66 I/O (~{RS}) (178) (io), 67 I/O (D2) (181) (io), 68 I/O (184) (io), 69 I/O (D1) (187) (io), 70 I/O (~{RCLK},RDY/~{BUSY}) (190) (io), 71 I/O (D0, DIN) (193) (io), 72 I/O, GCK6 (DOUT) (196) (io), 77 I/O (A0, ~{WS}) (2) (io), 78 I/O, GCK7 (A1) (5) (io), 79 I/O (CS1, A2) (8) (io), 80 I/O (A3) (11) (io), 81 I/O (A4) (14) (io), 82 I/O (A5) (17) (io), 83 I/O (A6) (20) (io), 84 I/O (A7) (23) (io)
part B pins: 1 GND (power), 2 VCC (power), 11 VCC (power), 12 GND (power), 15 I/O, TDI (56) (io), 16 I/O, TCK (59) (io), 17 I/O, TMS (62) (io), 21 GND (power), 22 VCC (power), 30 O (M1) (98), 31 GND (power), 32 I (M0) (101) (in), 33 VCC (power), 34 I (M2) (102) (in), 42 VCC (power), 43 GND (power), 52 GND (power), 53 DONE (io), 54 VCC (power), 55 ~{PROGRAM} (in), 63 VCC (power), 64 GND (power), 73 CCLK (io), 74 VCC (power), 75 O, TDO (hiz), 76 GND (power)

## XC4002XL-2PC84I
designator U?
XC4000XL FPGA, 61 I/Os, 84-Pin PLCC, Speed Grade 2, Industrial Grade; Published: 28-Feb-2003; LatestRevisionDate: 13-Apr-2006; LatestRevisionNote: IPC-7351 Footprint Added.; DatasheetVersion: ver1.6, May-1999; PackageVersion: ver1.2, Jun-2004; PackageReference: PC84; Publisher: Altium Limited; PackageDescription: 84-Pin Plastic Leaded Chip Carrier (PC84); Code_JEDEC: MS-047; Code_IPC: PLCC-84; ComponentLink1Description: XC4000XL Datasheet; ComponentLink1URL: http://www.xilinx.com/support/documentation/data_sheets/4000.pdf; ComponentLink2Description: Discontinuation Notice; ComponentLink2URL: http://www.xilinx.com/support/documentation/customer_notices/pdn00001.pdf; ComponentLink3Description: PC84 Package Drawing; ComponentLink3URL: http://www.xilinx.com/support/documentation/package_specs/pc84.pdf; ComponentLink4Description: XC4000 Documents; ComponentLink4URL: http://www.xilinx.com/support/documentation/xc4000.htm; ComponentLink5Description: Xilinx.com Home; ComponentLink5URL: http://www.xilinx.com
footprint PC84_N (Leaded Chip Carrier, 84-Leads, Body 29.3x29.3mm, Pitch 1.27mm, IPC Medium Density)
footprint PC84_L (Leaded Chip Carrier, 84-Leads, Body 29.3x29.3mm, Pitch 1.27mm, IPC High Density)
footprint PC84_M (Leaded Chip Carrier, 84-Leads, Body 29.3x29.3mm, Pitch 1.27mm, IPC Low Density)
part A pins: 3 I/O (A8) (26) (io), 4 I/O (A9) (29) (io), 5 I/O (A10) (32) (io), 6 I/O (A11) (35) (io), 7 I/O (A12) (38) (io), 8 I/O (A13) (41) (io), 9 I/O (A14) (44) (io), 10 I/O,GCK8 (A15) (47) (io), 13 I/O, GCK1 (A16) (50) (io), 14 I/O (A17) (53) (io), 18 I/O (65) (io), 19 I/O (68) (io), 20 I/O (71) (io), 23 I/O (74) (io), 24 I/O (77) (io), 25 I/O (80) (io), 26 I/O (83) (io), 27 I/O (86) (io), 28 I/O (92) (io), 29 I/O, GCK2 (95) (io), 35 I/O, GCK3 (103) (io), 36 I/O (HDC) (106) (io), 37 I/O (~{LDC}) (112) (io), 38 I/O (115) (io), 39 I/O (118) (io), 40 I/O (121) (io), 41 I/O (~{INIT}) (124) (io), 44 I/O (127) (io), 45 I/O (130) (io), 46 I/O (133) (io), 47 I/O (136) (io), 48 I/O (139) (io), 49 I/O (142) (io), 50 I/O (145) (io), 51 I/O, GCK4 (148) (io), 56 I/O (D7) (151) (io), 57 I/O, GCK5 (154) (io), 58 I/O (D6) (157) (io), 59 I/O (D5) (163) (io), 60 I/O (~{CS0}) (166) (io), 61 I/O (D4) (169) (io), 62 I/O (172) (io), 65 I/O (D3) (175) (io), 66 I/O (~{RS}) (178) (io), 67 I/O (D2) (181) (io), 68 I/O (184) (io), 69 I/O (D1) (187) (io), 70 I/O (~{RCLK},RDY/~{BUSY}) (190) (io), 71 I/O (D0, DIN) (193) (io), 72 I/O, GCK6 (DOUT) (196) (io), 77 I/O (A0, ~{WS}) (2) (io), 78 I/O, GCK7 (A1) (5) (io), 79 I/O (CS1, A2) (8) (io), 80 I/O (A3) (11) (io), 81 I/O (A4) (14) (io), 82 I/O (A5) (17) (io), 83 I/O (A6) (20) (io), 84 I/O (A7) (23) (io)
part B pins: 1 GND (power), 2 VCC (power), 11 VCC (power), 12 GND (power), 15 I/O, TDI (56) (io), 16 I/O, TCK (59) (io), 17 I/O, TMS (62) (io), 21 GND (power), 22 VCC (power), 30 O (M1) (98), 31 GND (power), 32 I (M0) (101) (in), 33 VCC (power), 34 I (M2) (102) (in), 42 VCC (power), 43 GND (power), 52 GND (power), 53 DONE (io), 54 VCC (power), 55 ~{PROGRAM} (in), 63 VCC (power), 64 GND (power), 73 CCLK (io), 74 VCC (power), 75 O, TDO (hiz), 76 GND (power)

## XC4002XL-2PQ100C
designator U?
XC4000XL FPGA, 64 I/Os, 100-Pin PQFP, Speed Grade 2, Commercial Grade; Published: 28-Feb-2003; LatestRevisionDate: 13-Apr-2006; LatestRevisionNote: IPC-7351 Footprint Added.; DatasheetVersion: ver1.6, May-1999; PackageVersion: ver1.2, Oct-2002; PackageReference: PQ100; Publisher: Altium Limited; PackageDescription: 100-Pin Plastic Quad Flat Pack (PQ100); Code_IPC: QFP65P1720X2320-100; ComponentLink1Description: XC4000XL Datasheet; ComponentLink1URL: http://www.xilinx.com/support/documentation/data_sheets/4000.pdf; ComponentLink2Description: Discontinuation Notice; ComponentLink2URL: http://www.xilinx.com/support/documentation/customer_notices/pdn00001.pdf; ComponentLink3Description: PQ100 Package Drawing; ComponentLink3URL: http://www.xilinx.com/support/documentation/package_specs/pq100.pdf; ComponentLink4Description: XC4000 Documents; ComponentLink4URL: http://www.xilinx.com/support/documentation/xc4000.htm; ComponentLink5Description: Xilinx.com Home; ComponentLink5URL: http://www.xilinx.com
footprint PQ100_N (QFP, 100-Leads, Body 20x14mm, Pitch 0.65mm, IPC Medium Density)
footprint PQ100_L (QFP, 100-Leads, Body 20x14mm, Pitch 0.65mm, IPC High Density)
footprint PQ100_M (QFP, 100-Leads, Body 20x14mm, Pitch 0.65mm, IPC Low Density)
part A pins: 1 I/O (A14) (44) (io), 2 I/O,GCK8 (A15) (47) (io), 5 I/O, GCK1 (A16) (50) (io), 6 I/O (A17) (53) (io), 10 I/O (65) (io), 12 I/O (68) (io), 13 I/O (71) (io), 16 I/O (74) (io), 17 I/O (77) (io), 19 I/O (80) (io), 20 I/O (83) (io), 21 I/O (86) (io), 22 I/O (89) (io), 23 I/O (92) (io), 24 I/O, GCK2 (95) (io), 30 I/O, GCK3 (103) (io), 31 I/O (HDC) (106) (io), 32 I/O (109) (io), 33 I/O (~{LDC}) (112) (io), 34 I/O (115) (io), 35 I/O (118) (io), 38 I/O (121) (io), 39 I/O (~{INIT}) (124) (io), 42 I/O (127) (io), 43 I/O (130) (io), 46 I/O (133) (io), 47 I/O (136) (io), 48 I/O (139) (io), 49 I/O (142) (io), 50 I/O (145) (io), 51 I/O, GCK4 (148) (io), 56 I/O (D7) (151) (io), 57 I/O, GCK5 (154) (io), 58 I/O (D6) (157) (io), 59 I/O (160) (io), 60 I/O (D5) (163) (io), 61 I/O (~{CS0}) (166) (io), 64 I/O (D4) (169) (io), 65 I/O (172) (io), 68 I/O (D3) (175) (io), 69 I/O (~{RS}) (178) (io), 71 I/O (D2) (181) (io), 72 I/O (184) (io), 73 I/O (D1) (187) (io), 74 I/O (~{RCLK},RDY/~{BUSY}) (190) (io), 75 I/O (D0, DIN) (193) (io), 76 I/O, GCK6 (DOUT) (196) (io), 81 I/O (A0, ~{WS}) (2) (io), 82 I/O, GCK7 (A1) (5) (io), 83 I/O (CS1, A2) (8) (io), 84 I/O (A3) (11) (io), 85 I/O (A4) (14) (io), 86 I/O (A5) (17) (io), 89 I/O (A6) (20) (io), 90 I/O (A7) (23) (io), 93 I/O (A8) (26) (io), 94 I/O (A9) (29) (io), 97 I/O (A10) (32) (io), 98 I/O (A11) (35) (io), 99 I/O (A12) (38) (io), 100 I/O (A13) (41) (io)
part B pins: 3 VCC (power), 4 GND (power), 7 I/O, TDI (56) (io), 8 I/O, TCK (59) (io), 9 I/O, TMS (62) (io), 11 NC, 14 GND (power), 15 VCC (power), 18 NC, 25 O (M1) (98) (io), 26 GND (power), 27 I (M0) (101) (in), 28 VCC (power), 29 I (M2) (102) (in), 36 NC, 37 NC, 40 VCC (power), 41 GND (power), 44 NC, 45 NC, 52 GND (power), 53 DONE (io), 54 VCC (power), 55 ~{PROGRAM} (in), 62 NC, 63 NC, 66 VCC (power), 67 GND (power), 70 NC, 77 CCLK (io), 78 VCC (power), 79 O, TDO (hiz), 80 GND (power), 87 NC, 88 NC, 91 GND (power), 92 VCC (power), 95 NC, 96 NC

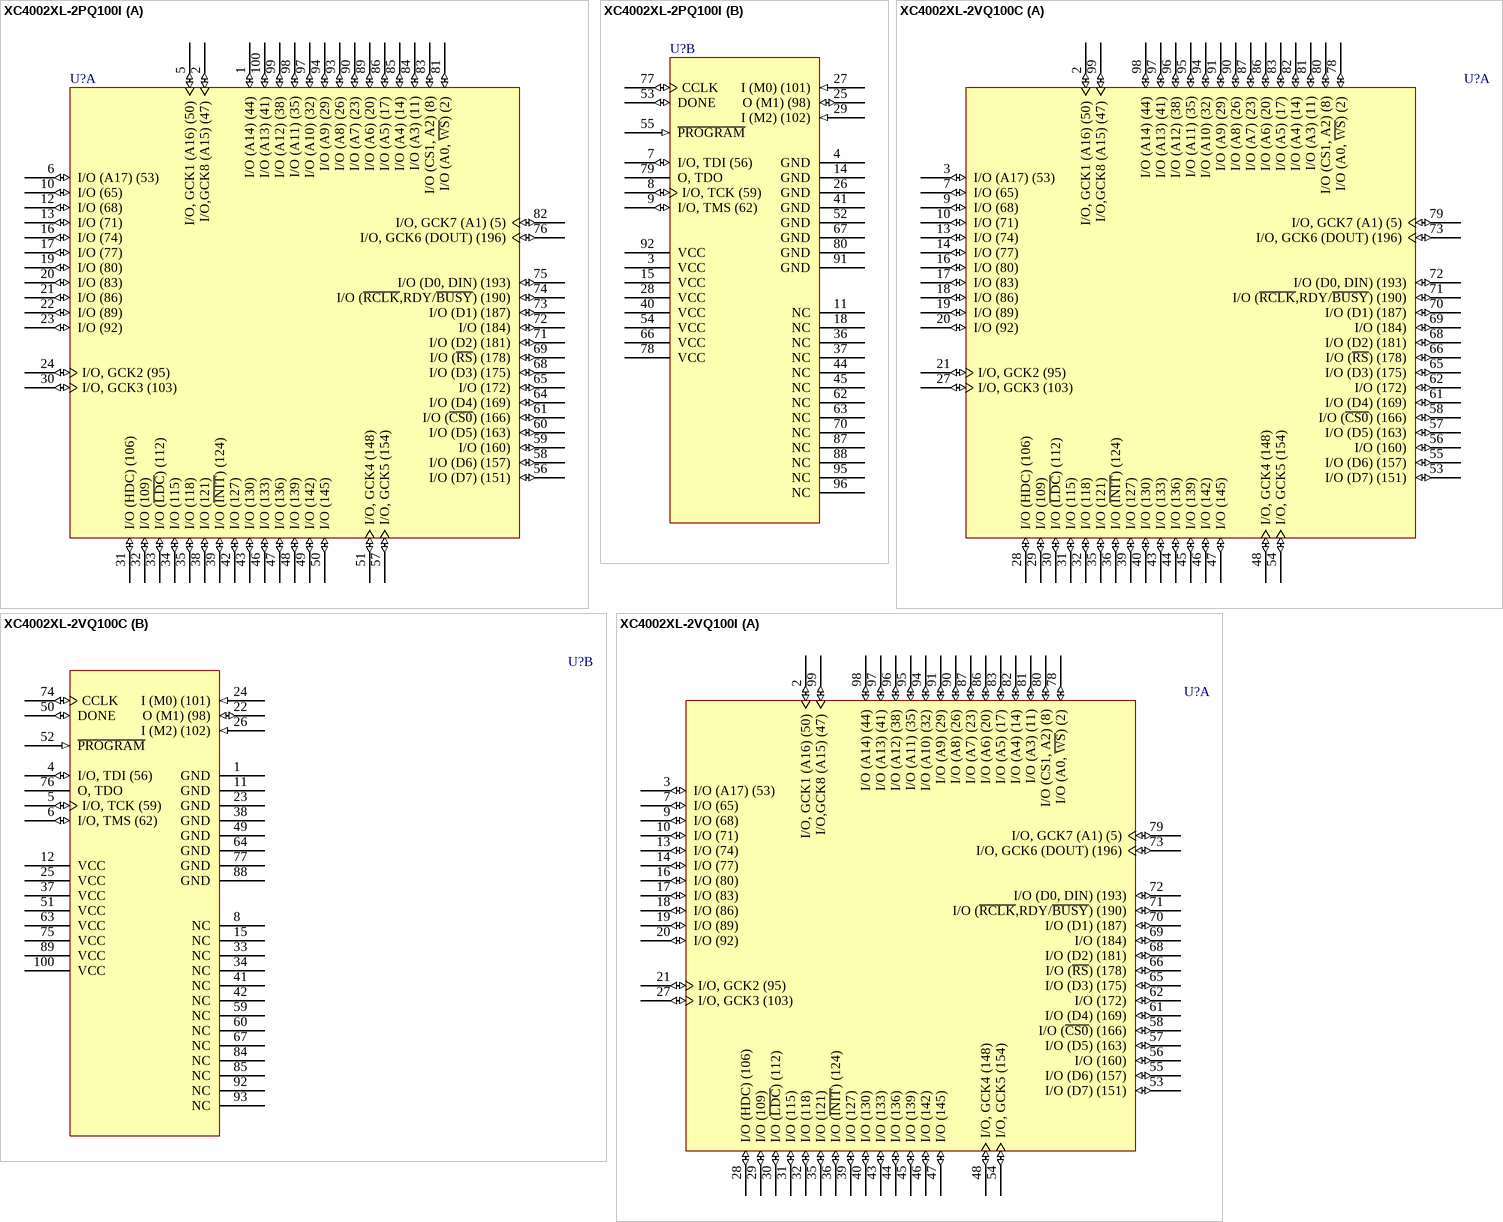
[diagram p3: symbols XC4002XL-2PQ100I to XC4002XL-2VQ100I]

## XC4002XL-2PQ100I
designator U?
XC4000XL FPGA, 64 I/Os, 100-Pin PQFP, Speed Grade 2, Industrial Grade; Published: 28-Feb-2003; LatestRevisionDate: 13-Apr-2006; LatestRevisionNote: IPC-7351 Footprint Added.; DatasheetVersion: ver1.6, May-1999; PackageVersion: ver1.2, Oct-2002; PackageReference: PQ100; Publisher: Altium Limited; PackageDescription: 100-Pin Plastic Quad Flat Pack (PQ100); Code_IPC: QFP65P1720X2320-100; ComponentLink1Description: XC4000XL Datasheet; ComponentLink1URL: http://www.xilinx.com/support/documentation/data_sheets/4000.pdf; ComponentLink2Description: Discontinuation Notice; ComponentLink2URL: http://www.xilinx.com/support/documentation/customer_notices/pdn00001.pdf; ComponentLink3Description: PQ100 Package Drawing; ComponentLink3URL: http://www.xilinx.com/support/documentation/package_specs/pq100.pdf; ComponentLink4Description: XC4000 Documents; ComponentLink4URL: http://www.xilinx.com/support/documentation/xc4000.htm; ComponentLink5Description: Xilinx.com Home; ComponentLink5URL: http://www.xilinx.com
footprint PQ100_N (QFP, 100-Leads, Body 20x14mm, Pitch 0.65mm, IPC Medium Density)
footprint PQ100_L (QFP, 100-Leads, Body 20x14mm, Pitch 0.65mm, IPC High Density)
footprint PQ100_M (QFP, 100-Leads, Body 20x14mm, Pitch 0.65mm, IPC Low Density)
part A pins: 1 I/O (A14) (44) (io), 2 I/O,GCK8 (A15) (47) (io), 5 I/O, GCK1 (A16) (50) (io), 6 I/O (A17) (53) (io), 10 I/O (65) (io), 12 I/O (68) (io), 13 I/O (71) (io), 16 I/O (74) (io), 17 I/O (77) (io), 19 I/O (80) (io), 20 I/O (83) (io), 21 I/O (86) (io), 22 I/O (89) (io), 23 I/O (92) (io), 24 I/O, GCK2 (95) (io), 30 I/O, GCK3 (103) (io), 31 I/O (HDC) (106) (io), 32 I/O (109) (io), 33 I/O (~{LDC}) (112) (io), 34 I/O (115) (io), 35 I/O (118) (io), 38 I/O (121) (io), 39 I/O (~{INIT}) (124) (io), 42 I/O (127) (io), 43 I/O (130) (io), 46 I/O (133) (io), 47 I/O (136) (io), 48 I/O (139) (io), 49 I/O (142) (io), 50 I/O (145) (io), 51 I/O, GCK4 (148) (io), 56 I/O (D7) (151) (io), 57 I/O, GCK5 (154) (io), 58 I/O (D6) (157) (io), 59 I/O (160) (io), 60 I/O (D5) (163) (io), 61 I/O (~{CS0}) (166) (io), 64 I/O (D4) (169) (io), 65 I/O (172) (io), 68 I/O (D3) (175) (io), 69 I/O (~{RS}) (178) (io), 71 I/O (D2) (181) (io), 72 I/O (184) (io), 73 I/O (D1) (187) (io), 74 I/O (~{RCLK},RDY/~{BUSY}) (190) (io), 75 I/O (D0, DIN) (193) (io), 76 I/O, GCK6 (DOUT) (196) (io), 81 I/O (A0, ~{WS}) (2) (io), 82 I/O, GCK7 (A1) (5) (io), 83 I/O (CS1, A2) (8) (io), 84 I/O (A3) (11) (io), 85 I/O (A4) (14) (io), 86 I/O (A5) (17) (io), 89 I/O (A6) (20) (io), 90 I/O (A7) (23) (io), 93 I/O (A8) (26) (io), 94 I/O (A9) (29) (io), 97 I/O (A10) (32) (io), 98 I/O (A11) (35) (io), 99 I/O (A12) (38) (io), 100 I/O (A13) (41) (io)
part B pins: 3 VCC (power), 4 GND (power), 7 I/O, TDI (56) (io), 8 I/O, TCK (59) (io), 9 I/O, TMS (62) (io), 11 NC, 14 GND (power), 15 VCC (power), 18 NC, 25 O (M1) (98) (io), 26 GND (power), 27 I (M0) (101) (in), 28 VCC (power), 29 I (M2) (102) (in), 36 NC, 37 NC, 40 VCC (power), 41 GND (power), 44 NC, 45 NC, 52 GND (power), 53 DONE (io), 54 VCC (power), 55 ~{PROGRAM} (in), 62 NC, 63 NC, 66 VCC (power), 67 GND (power), 70 NC, 77 CCLK (io), 78 VCC (power), 79 O, TDO (hiz), 80 GND (power), 87 NC, 88 NC, 91 GND (power), 92 VCC (power), 95 NC, 96 NC

## XC4002XL-2VQ100C
designator U?
XC4000XL FPGA, 64 I/Os, 100-Pin VQFP, Speed Grade 2, Commercial Grade; Published: 28-Feb-2003; LatestRevisionDate: 13-Apr-2006; LatestRevisionNote: IPC-7351 Footprint Added.; DatasheetVersion: ver1.6, May-1999; PackageVersion: ver1.2.1, Feb-2007; PackageReference: VQ100; Publisher: Altium Limited; PackageDescription: 100-Pin Very Thin Quad Flat Pack (VQ100); Code_JEDEC: MS-026-AED; ComponentLink1Description: XC4000XL Datasheet; ComponentLink1URL: http://www.xilinx.com/support/documentation/data_sheets/4000.pdf; ComponentLink2Description: Discontinuation Notice; ComponentLink2URL: http://www.xilinx.com/support/documentation/customer_notices/pdn00001.pdf; ComponentLink3Description: VQ100 Package Drawing; ComponentLink3URL: http://www.xilinx.com/support/documentation/package_specs/vq100.pdf; ComponentLink4Description: XC4000 Documents; ComponentLink4URL: http://www.xilinx.com/support/documentation/xc4000.htm; ComponentLink5Description: Xilinx.com Home; ComponentLink5URL: http://www.xilinx.com
footprint VQ100_N (Thin QFP, 100-Leads, Body 14x14mm, Pitch 0.5mm, IPC Medium Density)
footprint VQ100_L (Thin QFP, 100-Leads, Body 14x14mm, Pitch 0.5mm, IPC High Density)
footprint VQ100_M (Thin QFP, 100-Leads, Body 14x14mm, Pitch 0.5mm, IPC Low Density)
part A pins: 2 I/O, GCK1 (A16) (50) (io), 3 I/O (A17) (53) (io), 7 I/O (65) (io), 9 I/O (68) (io), 10 I/O (71) (io), 13 I/O (74) (io), 14 I/O (77) (io), 16 I/O (80) (io), 17 I/O (83) (io), 18 I/O (86) (io), 19 I/O (89) (io), 20 I/O (92) (io), 21 I/O, GCK2 (95) (io), 27 I/O, GCK3 (103) (io), 28 I/O (HDC) (106) (io), 29 I/O (109) (io), 30 I/O (~{LDC}) (112) (io), 31 I/O (115) (io), 32 I/O (118) (io), 35 I/O (121) (io), 36 I/O (~{INIT}) (124) (io), 39 I/O (127) (io), 40 I/O (130) (io), 43 I/O (133) (io), 44 I/O (136) (io), 45 I/O (139) (io), 46 I/O (142) (io), 47 I/O (145) (io), 48 I/O, GCK4 (148) (io), 53 I/O (D7) (151) (io), 54 I/O, GCK5 (154) (io), 55 I/O (D6) (157) (io), 56 I/O (160) (io), 57 I/O (D5) (163) (io), 58 I/O (~{CS0}) (166) (io), 61 I/O (D4) (169) (io), 62 I/O (172) (io), 65 I/O (D3) (175) (io), 66 I/O (~{RS}) (178) (io), 68 I/O (D2) (181) (io), 69 I/O (184) (io), 70 I/O (D1) (187) (io), 71 I/O (~{RCLK},RDY/~{BUSY}) (190) (io), 72 I/O (D0, DIN) (193) (io), 73 I/O, GCK6 (DOUT) (196) (io), 78 I/O (A0, ~{WS}) (2) (io), 79 I/O, GCK7 (A1) (5) (io), 80 I/O (CS1, A2) (8) (io), 81 I/O (A3) (11) (io), 82 I/O (A4) (14) (io), 83 I/O (A5) (17) (io), 86 I/O (A6) (20) (io), 87 I/O (A7) (23) (io), 90 I/O (A8) (26) (io), 91 I/O (A9) (29) (io), 94 I/O (A10) (32) (io), 95 I/O (A11) (35) (io), 96 I/O (A12) (38) (io), 97 I/O (A13) (41) (io), 98 I/O (A14) (44) (io), 99 I/O,GCK8 (A15) (47) (io)
part B pins: 1 GND (power), 4 I/O, TDI (56) (io), 5 I/O, TCK (59) (io), 6 I/O, TMS (62) (io), 8 NC, 11 GND (power), 12 VCC (power), 15 NC, 22 O (M1) (98) (io), 23 GND (power), 24 I (M0) (101) (in), 25 VCC (power), 26 I (M2) (102) (in), 33 NC, 34 NC, 37 VCC (power), 38 GND (power), 41 NC, 42 NC, 49 GND (power), 50 DONE (io), 51 VCC (power), 52 ~{PROGRAM} (in), 59 NC, 60 NC, 63 VCC (power), 64 GND (power), 67 NC, 74 CCLK (io), 75 VCC (power), 76 O, TDO (hiz), 77 GND (power), 84 NC, 85 NC, 88 GND (power), 89 VCC (power), 92 NC, 93 NC, 100 VCC (power)

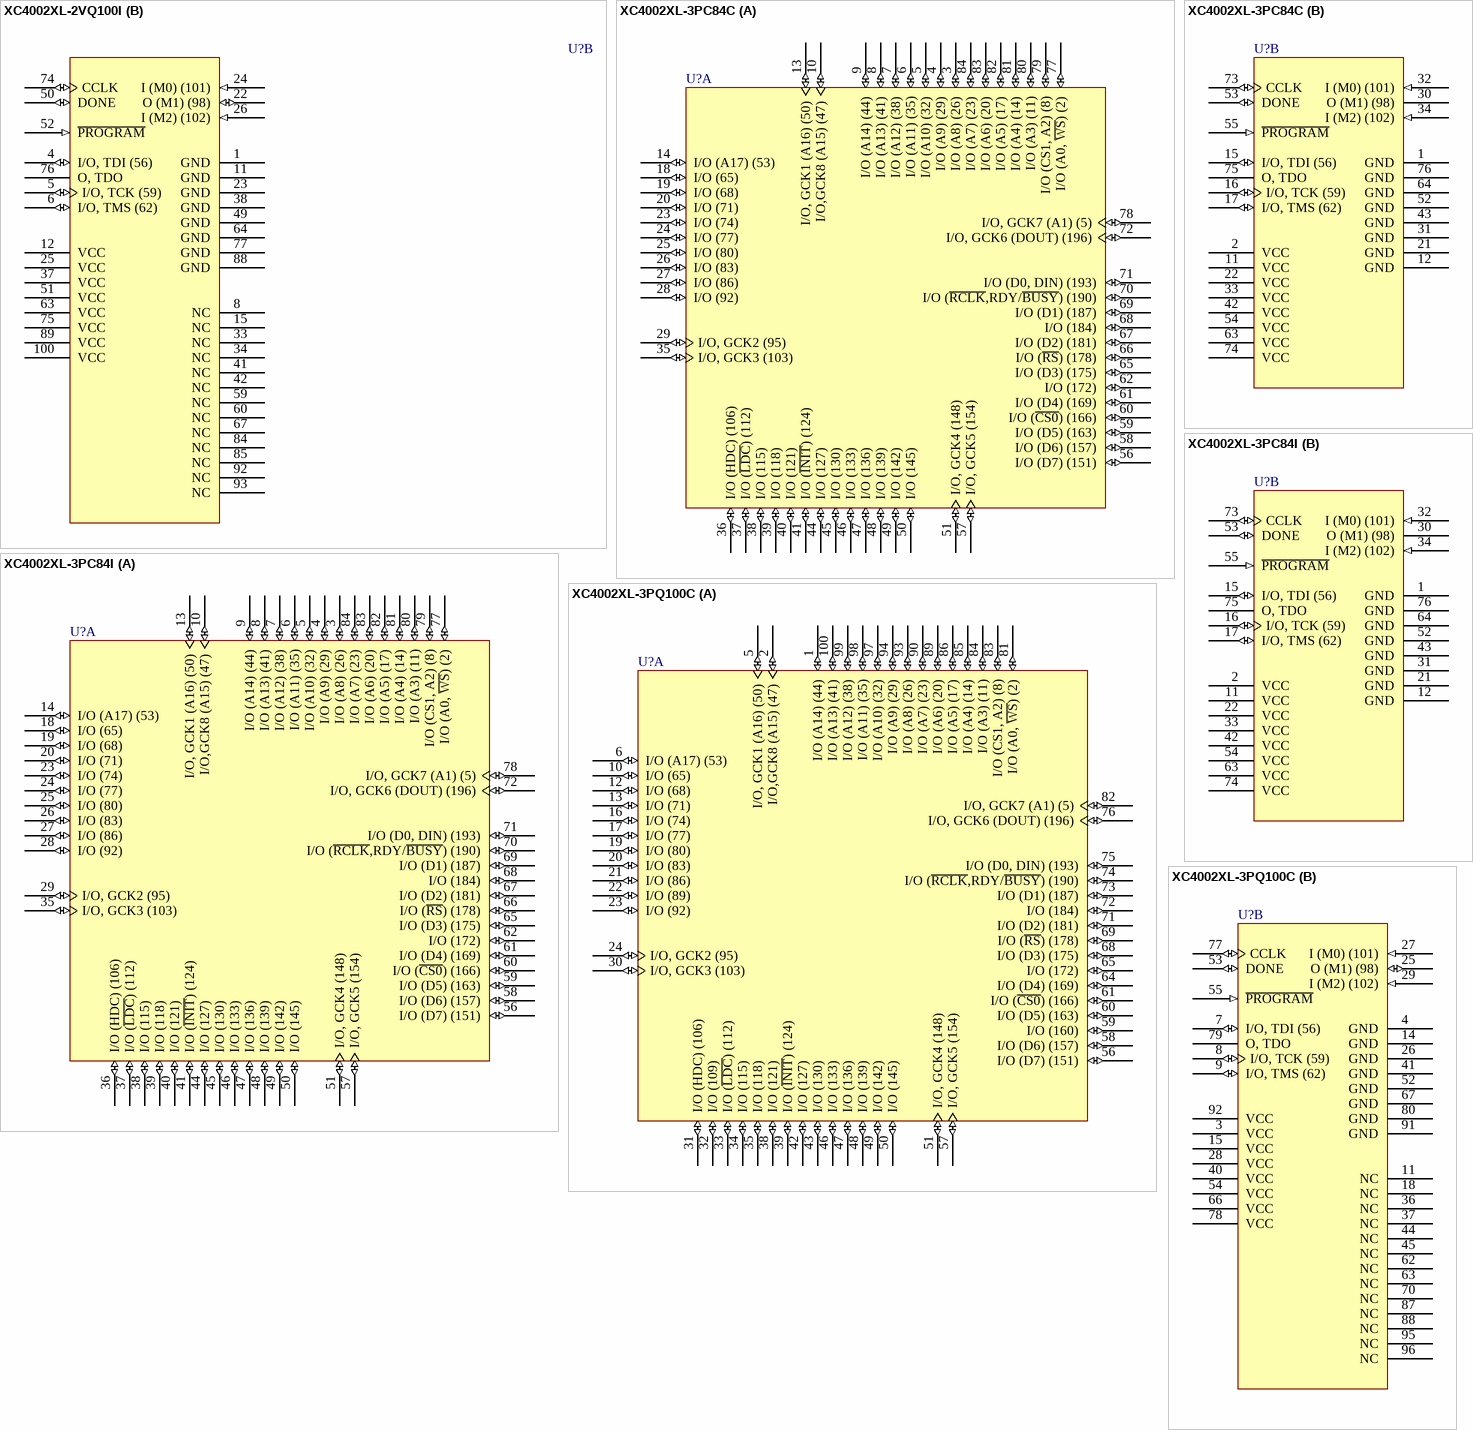
[diagram p4: symbols XC4002XL-2VQ100I to XC4002XL-3PQ100C]

## XC4002XL-2VQ100I
designator U?
XC4000XL FPGA, 64 I/Os, 100-Pin VQFP, Speed Grade 2, Industrial Grade; Published: 28-Feb-2003; LatestRevisionDate: 13-Apr-2006; LatestRevisionNote: IPC-7351 Footprint Added.; DatasheetVersion: ver1.6, May-1999; PackageVersion: ver1.2.1, Feb-2007; PackageReference: VQ100; Publisher: Altium Limited; PackageDescription: 100-Pin Very Thin Quad Flat Pack (VQ100); Code_JEDEC: MS-026-AED; ComponentLink1Description: XC4000XL Datasheet; ComponentLink1URL: http://www.xilinx.com/support/documentation/data_sheets/4000.pdf; ComponentLink2Description: Discontinuation Notice; ComponentLink2URL: http://www.xilinx.com/support/documentation/customer_notices/pdn00001.pdf; ComponentLink3Description: VQ100 Package Drawing; ComponentLink3URL: http://www.xilinx.com/support/documentation/package_specs/vq100.pdf; ComponentLink4Description: XC4000 Documents; ComponentLink4URL: http://www.xilinx.com/support/documentation/xc4000.htm; ComponentLink5Description: Xilinx.com Home; ComponentLink5URL: http://www.xilinx.com
footprint VQ100_N (Thin QFP, 100-Leads, Body 14x14mm, Pitch 0.5mm, IPC Medium Density)
footprint VQ100_L (Thin QFP, 100-Leads, Body 14x14mm, Pitch 0.5mm, IPC High Density)
footprint VQ100_M (Thin QFP, 100-Leads, Body 14x14mm, Pitch 0.5mm, IPC Low Density)
part A pins: 2 I/O, GCK1 (A16) (50) (io), 3 I/O (A17) (53) (io), 7 I/O (65) (io), 9 I/O (68) (io), 10 I/O (71) (io), 13 I/O (74) (io), 14 I/O (77) (io), 16 I/O (80) (io), 17 I/O (83) (io), 18 I/O (86) (io), 19 I/O (89) (io), 20 I/O (92) (io), 21 I/O, GCK2 (95) (io), 27 I/O, GCK3 (103) (io), 28 I/O (HDC) (106) (io), 29 I/O (109) (io), 30 I/O (~{LDC}) (112) (io), 31 I/O (115) (io), 32 I/O (118) (io), 35 I/O (121) (io), 36 I/O (~{INIT}) (124) (io), 39 I/O (127) (io), 40 I/O (130) (io), 43 I/O (133) (io), 44 I/O (136) (io), 45 I/O (139) (io), 46 I/O (142) (io), 47 I/O (145) (io), 48 I/O, GCK4 (148) (io), 53 I/O (D7) (151) (io), 54 I/O, GCK5 (154) (io), 55 I/O (D6) (157) (io), 56 I/O (160) (io), 57 I/O (D5) (163) (io), 58 I/O (~{CS0}) (166) (io), 61 I/O (D4) (169) (io), 62 I/O (172) (io), 65 I/O (D3) (175) (io), 66 I/O (~{RS}) (178) (io), 68 I/O (D2) (181) (io), 69 I/O (184) (io), 70 I/O (D1) (187) (io), 71 I/O (~{RCLK},RDY/~{BUSY}) (190) (io), 72 I/O (D0, DIN) (193) (io), 73 I/O, GCK6 (DOUT) (196) (io), 78 I/O (A0, ~{WS}) (2) (io), 79 I/O, GCK7 (A1) (5) (io), 80 I/O (CS1, A2) (8) (io), 81 I/O (A3) (11) (io), 82 I/O (A4) (14) (io), 83 I/O (A5) (17) (io), 86 I/O (A6) (20) (io), 87 I/O (A7) (23) (io), 90 I/O (A8) (26) (io), 91 I/O (A9) (29) (io), 94 I/O (A10) (32) (io), 95 I/O (A11) (35) (io), 96 I/O (A12) (38) (io), 97 I/O (A13) (41) (io), 98 I/O (A14) (44) (io), 99 I/O,GCK8 (A15) (47) (io)
part B pins: 1 GND (power), 4 I/O, TDI (56) (io), 5 I/O, TCK (59) (io), 6 I/O, TMS (62) (io), 8 NC, 11 GND (power), 12 VCC (power), 15 NC, 22 O (M1) (98) (io), 23 GND (power), 24 I (M0) (101) (in), 25 VCC (power), 26 I (M2) (102) (in), 33 NC, 34 NC, 37 VCC (power), 38 GND (power), 41 NC, 42 NC, 49 GND (power), 50 DONE (io), 51 VCC (power), 52 ~{PROGRAM} (in), 59 NC, 60 NC, 63 VCC (power), 64 GND (power), 67 NC, 74 CCLK (io), 75 VCC (power), 76 O, TDO (hiz), 77 GND (power), 84 NC, 85 NC, 88 GND (power), 89 VCC (power), 92 NC, 93 NC, 100 VCC (power)

## XC4002XL-3PC84C
designator U?
XC4000XL FPGA, 61 I/Os, 84-Pin PLCC, Speed Grade 3, Commercial Grade; Published: 28-Feb-2003; LatestRevisionDate: 13-Apr-2006; LatestRevisionNote: IPC-7351 Footprint Added.; DatasheetVersion: ver1.6, May-1999; PackageVersion: ver1.2, Jun-2004; PackageReference: PC84; Publisher: Altium Limited; PackageDescription: 84-Pin Plastic Leaded Chip Carrier (PC84); Code_JEDEC: MS-047; Code_IPC: PLCC-84; ComponentLink1Description: XC4000XL Datasheet; ComponentLink1URL: http://www.xilinx.com/support/documentation/data_sheets/4000.pdf; ComponentLink2Description: Discontinuation Notice; ComponentLink2URL: http://www.xilinx.com/support/documentation/customer_notices/pdn00001.pdf; ComponentLink3Description: PC84 Package Drawing; ComponentLink3URL: http://www.xilinx.com/support/documentation/package_specs/pc84.pdf; ComponentLink4Description: XC4000 Documents; ComponentLink4URL: http://www.xilinx.com/support/documentation/xc4000.htm; ComponentLink5Description: Xilinx.com Home; ComponentLink5URL: http://www.xilinx.com
footprint PC84_N (Leaded Chip Carrier, 84-Leads, Body 29.3x29.3mm, Pitch 1.27mm, IPC Medium Density)
footprint PC84_L (Leaded Chip Carrier, 84-Leads, Body 29.3x29.3mm, Pitch 1.27mm, IPC High Density)
footprint PC84_M (Leaded Chip Carrier, 84-Leads, Body 29.3x29.3mm, Pitch 1.27mm, IPC Low Density)
part A pins: 3 I/O (A8) (26) (io), 4 I/O (A9) (29) (io), 5 I/O (A10) (32) (io), 6 I/O (A11) (35) (io), 7 I/O (A12) (38) (io), 8 I/O (A13) (41) (io), 9 I/O (A14) (44) (io), 10 I/O,GCK8 (A15) (47) (io), 13 I/O, GCK1 (A16) (50) (io), 14 I/O (A17) (53) (io), 18 I/O (65) (io), 19 I/O (68) (io), 20 I/O (71) (io), 23 I/O (74) (io), 24 I/O (77) (io), 25 I/O (80) (io), 26 I/O (83) (io), 27 I/O (86) (io), 28 I/O (92) (io), 29 I/O, GCK2 (95) (io), 35 I/O, GCK3 (103) (io), 36 I/O (HDC) (106) (io), 37 I/O (~{LDC}) (112) (io), 38 I/O (115) (io), 39 I/O (118) (io), 40 I/O (121) (io), 41 I/O (~{INIT}) (124) (io), 44 I/O (127) (io), 45 I/O (130) (io), 46 I/O (133) (io), 47 I/O (136) (io), 48 I/O (139) (io), 49 I/O (142) (io), 50 I/O (145) (io), 51 I/O, GCK4 (148) (io), 56 I/O (D7) (151) (io), 57 I/O, GCK5 (154) (io), 58 I/O (D6) (157) (io), 59 I/O (D5) (163) (io), 60 I/O (~{CS0}) (166) (io), 61 I/O (D4) (169) (io), 62 I/O (172) (io), 65 I/O (D3) (175) (io), 66 I/O (~{RS}) (178) (io), 67 I/O (D2) (181) (io), 68 I/O (184) (io), 69 I/O (D1) (187) (io), 70 I/O (~{RCLK},RDY/~{BUSY}) (190) (io), 71 I/O (D0, DIN) (193) (io), 72 I/O, GCK6 (DOUT) (196) (io), 77 I/O (A0, ~{WS}) (2) (io), 78 I/O, GCK7 (A1) (5) (io), 79 I/O (CS1, A2) (8) (io), 80 I/O (A3) (11) (io), 81 I/O (A4) (14) (io), 82 I/O (A5) (17) (io), 83 I/O (A6) (20) (io), 84 I/O (A7) (23) (io)
part B pins: 1 GND (power), 2 VCC (power), 11 VCC (power), 12 GND (power), 15 I/O, TDI (56) (io), 16 I/O, TCK (59) (io), 17 I/O, TMS (62) (io), 21 GND (power), 22 VCC (power), 30 O (M1) (98), 31 GND (power), 32 I (M0) (101) (in), 33 VCC (power), 34 I (M2) (102) (in), 42 VCC (power), 43 GND (power), 52 GND (power), 53 DONE (io), 54 VCC (power), 55 ~{PROGRAM} (in), 63 VCC (power), 64 GND (power), 73 CCLK (io), 74 VCC (power), 75 O, TDO (hiz), 76 GND (power)

## XC4002XL-3PC84I
designator U?
XC4000XL FPGA, 61 I/Os, 84-Pin PLCC, Speed Grade 3, Industrial Grade; Published: 28-Feb-2003; LatestRevisionDate: 13-Apr-2006; LatestRevisionNote: IPC-7351 Footprint Added.; DatasheetVersion: ver1.6, May-1999; PackageVersion: ver1.2, Jun-2004; PackageReference: PC84; Publisher: Altium Limited; PackageDescription: 84-Pin Plastic Leaded Chip Carrier (PC84); Code_JEDEC: MS-047; Code_IPC: PLCC-84; ComponentLink1Description: XC4000XL Datasheet; ComponentLink1URL: http://www.xilinx.com/support/documentation/data_sheets/4000.pdf; ComponentLink2Description: Discontinuation Notice; ComponentLink2URL: http://www.xilinx.com/support/documentation/customer_notices/pdn00001.pdf; ComponentLink3Description: PC84 Package Drawing; ComponentLink3URL: http://www.xilinx.com/support/documentation/package_specs/pc84.pdf; ComponentLink4Description: XC4000 Documents; ComponentLink4URL: http://www.xilinx.com/support/documentation/xc4000.htm; ComponentLink5Description: Xilinx.com Home; ComponentLink5URL: http://www.xilinx.com
footprint PC84_N (Leaded Chip Carrier, 84-Leads, Body 29.3x29.3mm, Pitch 1.27mm, IPC Medium Density)
footprint PC84_L (Leaded Chip Carrier, 84-Leads, Body 29.3x29.3mm, Pitch 1.27mm, IPC High Density)
footprint PC84_M (Leaded Chip Carrier, 84-Leads, Body 29.3x29.3mm, Pitch 1.27mm, IPC Low Density)
part A pins: 3 I/O (A8) (26) (io), 4 I/O (A9) (29) (io), 5 I/O (A10) (32) (io), 6 I/O (A11) (35) (io), 7 I/O (A12) (38) (io), 8 I/O (A13) (41) (io), 9 I/O (A14) (44) (io), 10 I/O,GCK8 (A15) (47) (io), 13 I/O, GCK1 (A16) (50) (io), 14 I/O (A17) (53) (io), 18 I/O (65) (io), 19 I/O (68) (io), 20 I/O (71) (io), 23 I/O (74) (io), 24 I/O (77) (io), 25 I/O (80) (io), 26 I/O (83) (io), 27 I/O (86) (io), 28 I/O (92) (io), 29 I/O, GCK2 (95) (io), 35 I/O, GCK3 (103) (io), 36 I/O (HDC) (106) (io), 37 I/O (~{LDC}) (112) (io), 38 I/O (115) (io), 39 I/O (118) (io), 40 I/O (121) (io), 41 I/O (~{INIT}) (124) (io), 44 I/O (127) (io), 45 I/O (130) (io), 46 I/O (133) (io), 47 I/O (136) (io), 48 I/O (139) (io), 49 I/O (142) (io), 50 I/O (145) (io), 51 I/O, GCK4 (148) (io), 56 I/O (D7) (151) (io), 57 I/O, GCK5 (154) (io), 58 I/O (D6) (157) (io), 59 I/O (D5) (163) (io), 60 I/O (~{CS0}) (166) (io), 61 I/O (D4) (169) (io), 62 I/O (172) (io), 65 I/O (D3) (175) (io), 66 I/O (~{RS}) (178) (io), 67 I/O (D2) (181) (io), 68 I/O (184) (io), 69 I/O (D1) (187) (io), 70 I/O (~{RCLK},RDY/~{BUSY}) (190) (io), 71 I/O (D0, DIN) (193) (io), 72 I/O, GCK6 (DOUT) (196) (io), 77 I/O (A0, ~{WS}) (2) (io), 78 I/O, GCK7 (A1) (5) (io), 79 I/O (CS1, A2) (8) (io), 80 I/O (A3) (11) (io), 81 I/O (A4) (14) (io), 82 I/O (A5) (17) (io), 83 I/O (A6) (20) (io), 84 I/O (A7) (23) (io)
part B pins: 1 GND (power), 2 VCC (power), 11 VCC (power), 12 GND (power), 15 I/O, TDI (56) (io), 16 I/O, TCK (59) (io), 17 I/O, TMS (62) (io), 21 GND (power), 22 VCC (power), 30 O (M1) (98), 31 GND (power), 32 I (M0) (101) (in), 33 VCC (power), 34 I (M2) (102) (in), 42 VCC (power), 43 GND (power), 52 GND (power), 53 DONE (io), 54 VCC (power), 55 ~{PROGRAM} (in), 63 VCC (power), 64 GND (power), 73 CCLK (io), 74 VCC (power), 75 O, TDO (hiz), 76 GND (power)

## XC4002XL-3PQ100C
designator U?
XC4000XL FPGA, 64 I/Os, 100-Pin PQFP, Speed Grade 3, Commercial Grade; Published: 28-Feb-2003; LatestRevisionDate: 13-Apr-2006; LatestRevisionNote: IPC-7351 Footprint Added.; DatasheetVersion: ver1.6, May-1999; PackageVersion: ver1.2, Oct-2002; PackageReference: PQ100; Publisher: Altium Limited; PackageDescription: 100-Pin Plastic Quad Flat Pack (PQ100); Code_IPC: QFP65P1720X2320-100; ComponentLink1Description: XC4000XL Datasheet; ComponentLink1URL: http://www.xilinx.com/support/documentation/data_sheets/4000.pdf; ComponentLink2Description: Discontinuation Notice; ComponentLink2URL: http://www.xilinx.com/support/documentation/customer_notices/pdn00001.pdf; ComponentLink3Description: PQ100 Package Drawing; ComponentLink3URL: http://www.xilinx.com/support/documentation/package_specs/pq100.pdf; ComponentLink4Description: XC4000 Documents; ComponentLink4URL: http://www.xilinx.com/support/documentation/xc4000.htm; ComponentLink5Description: Xilinx.com Home; ComponentLink5URL: http://www.xilinx.com
footprint PQ100_N (QFP, 100-Leads, Body 20x14mm, Pitch 0.65mm, IPC Medium Density)
footprint PQ100_L (QFP, 100-Leads, Body 20x14mm, Pitch 0.65mm, IPC High Density)
footprint PQ100_M (QFP, 100-Leads, Body 20x14mm, Pitch 0.65mm, IPC Low Density)
part A pins: 1 I/O (A14) (44) (io), 2 I/O,GCK8 (A15) (47) (io), 5 I/O, GCK1 (A16) (50) (io), 6 I/O (A17) (53) (io), 10 I/O (65) (io), 12 I/O (68) (io), 13 I/O (71) (io), 16 I/O (74) (io), 17 I/O (77) (io), 19 I/O (80) (io), 20 I/O (83) (io), 21 I/O (86) (io), 22 I/O (89) (io), 23 I/O (92) (io), 24 I/O, GCK2 (95) (io), 30 I/O, GCK3 (103) (io), 31 I/O (HDC) (106) (io), 32 I/O (109) (io), 33 I/O (~{LDC}) (112) (io), 34 I/O (115) (io), 35 I/O (118) (io), 38 I/O (121) (io), 39 I/O (~{INIT}) (124) (io), 42 I/O (127) (io), 43 I/O (130) (io), 46 I/O (133) (io), 47 I/O (136) (io), 48 I/O (139) (io), 49 I/O (142) (io), 50 I/O (145) (io), 51 I/O, GCK4 (148) (io), 56 I/O (D7) (151) (io), 57 I/O, GCK5 (154) (io), 58 I/O (D6) (157) (io), 59 I/O (160) (io), 60 I/O (D5) (163) (io), 61 I/O (~{CS0}) (166) (io), 64 I/O (D4) (169) (io), 65 I/O (172) (io), 68 I/O (D3) (175) (io), 69 I/O (~{RS}) (178) (io), 71 I/O (D2) (181) (io), 72 I/O (184) (io), 73 I/O (D1) (187) (io), 74 I/O (~{RCLK},RDY/~{BUSY}) (190) (io), 75 I/O (D0, DIN) (193) (io), 76 I/O, GCK6 (DOUT) (196) (io), 81 I/O (A0, ~{WS}) (2) (io), 82 I/O, GCK7 (A1) (5) (io), 83 I/O (CS1, A2) (8) (io), 84 I/O (A3) (11) (io), 85 I/O (A4) (14) (io), 86 I/O (A5) (17) (io), 89 I/O (A6) (20) (io), 90 I/O (A7) (23) (io), 93 I/O (A8) (26) (io), 94 I/O (A9) (29) (io), 97 I/O (A10) (32) (io), 98 I/O (A11) (35) (io), 99 I/O (A12) (38) (io), 100 I/O (A13) (41) (io)
part B pins: 3 VCC (power), 4 GND (power), 7 I/O, TDI (56) (io), 8 I/O, TCK (59) (io), 9 I/O, TMS (62) (io), 11 NC, 14 GND (power), 15 VCC (power), 18 NC, 25 O (M1) (98) (io), 26 GND (power), 27 I (M0) (101) (in), 28 VCC (power), 29 I (M2) (102) (in), 36 NC, 37 NC, 40 VCC (power), 41 GND (power), 44 NC, 45 NC, 52 GND (power), 53 DONE (io), 54 VCC (power), 55 ~{PROGRAM} (in), 62 NC, 63 NC, 66 VCC (power), 67 GND (power), 70 NC, 77 CCLK (io), 78 VCC (power), 79 O, TDO (hiz), 80 GND (power), 87 NC, 88 NC, 91 GND (power), 92 VCC (power), 95 NC, 96 NC

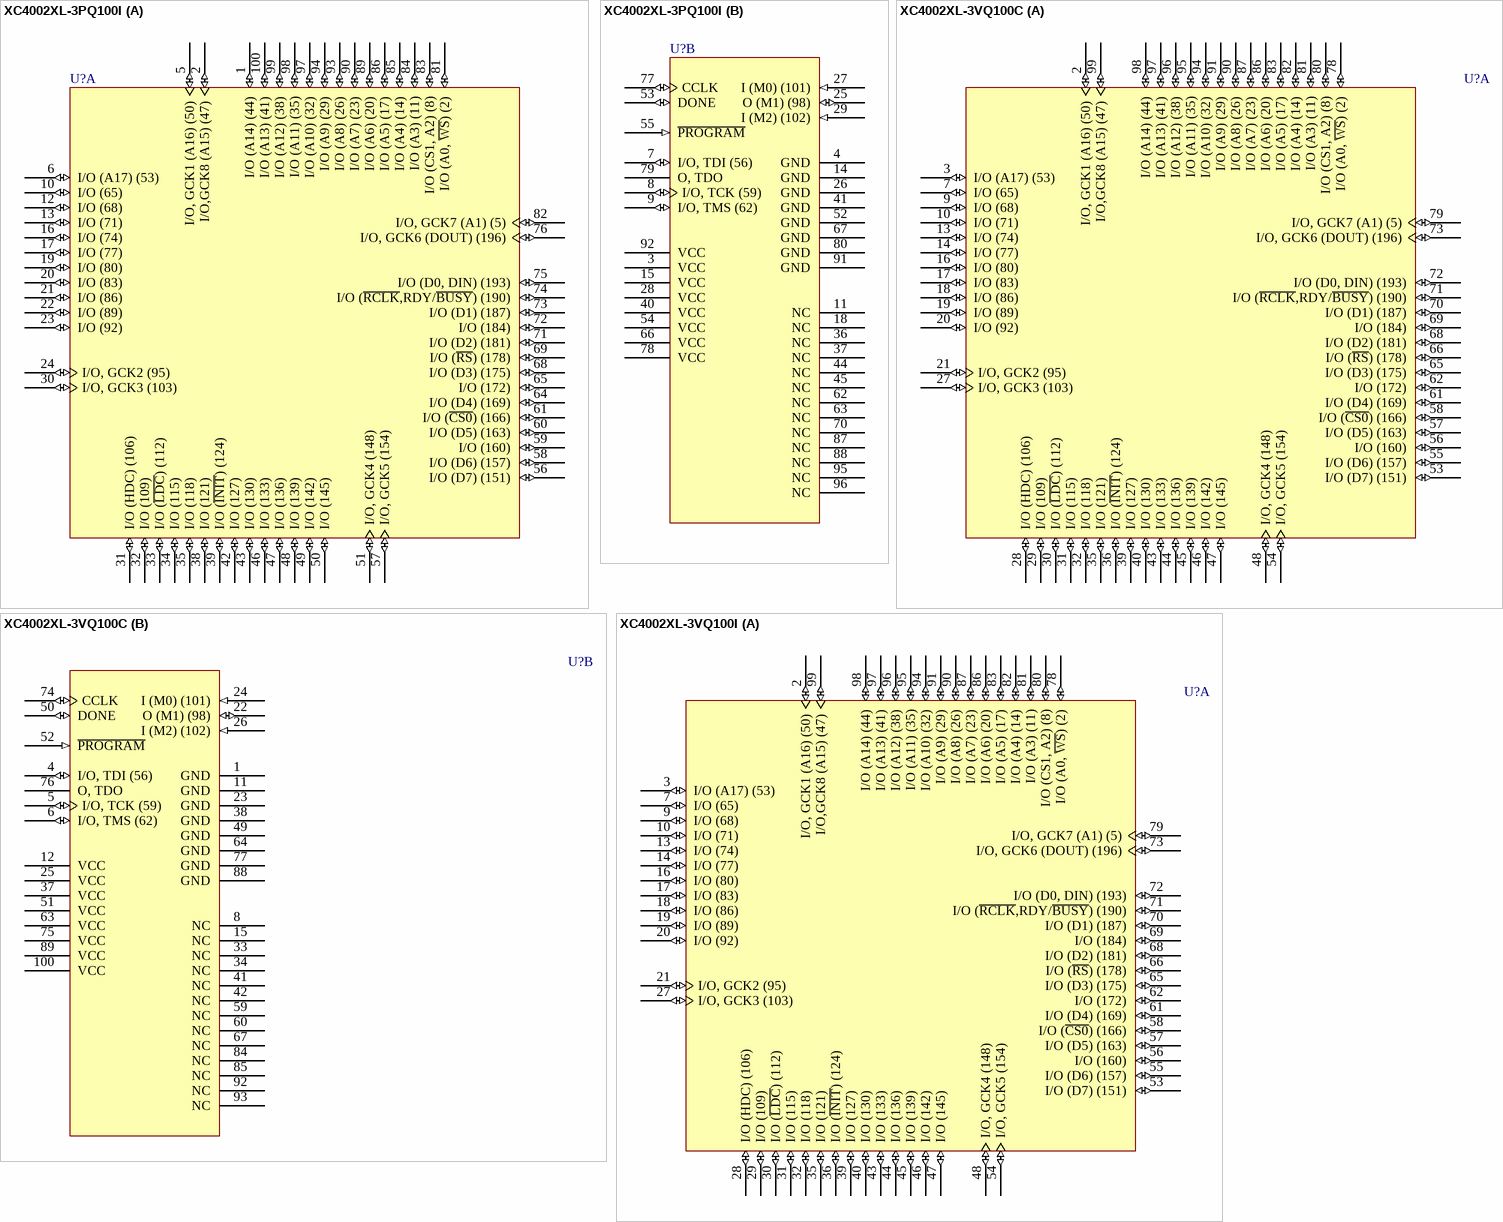
[diagram p5: symbols XC4002XL-3PQ100I to XC4002XL-3VQ100I]